# Altium integrated library Renesas Microcontroller H8.IntLib: 489 symbols (part 14 of 25)
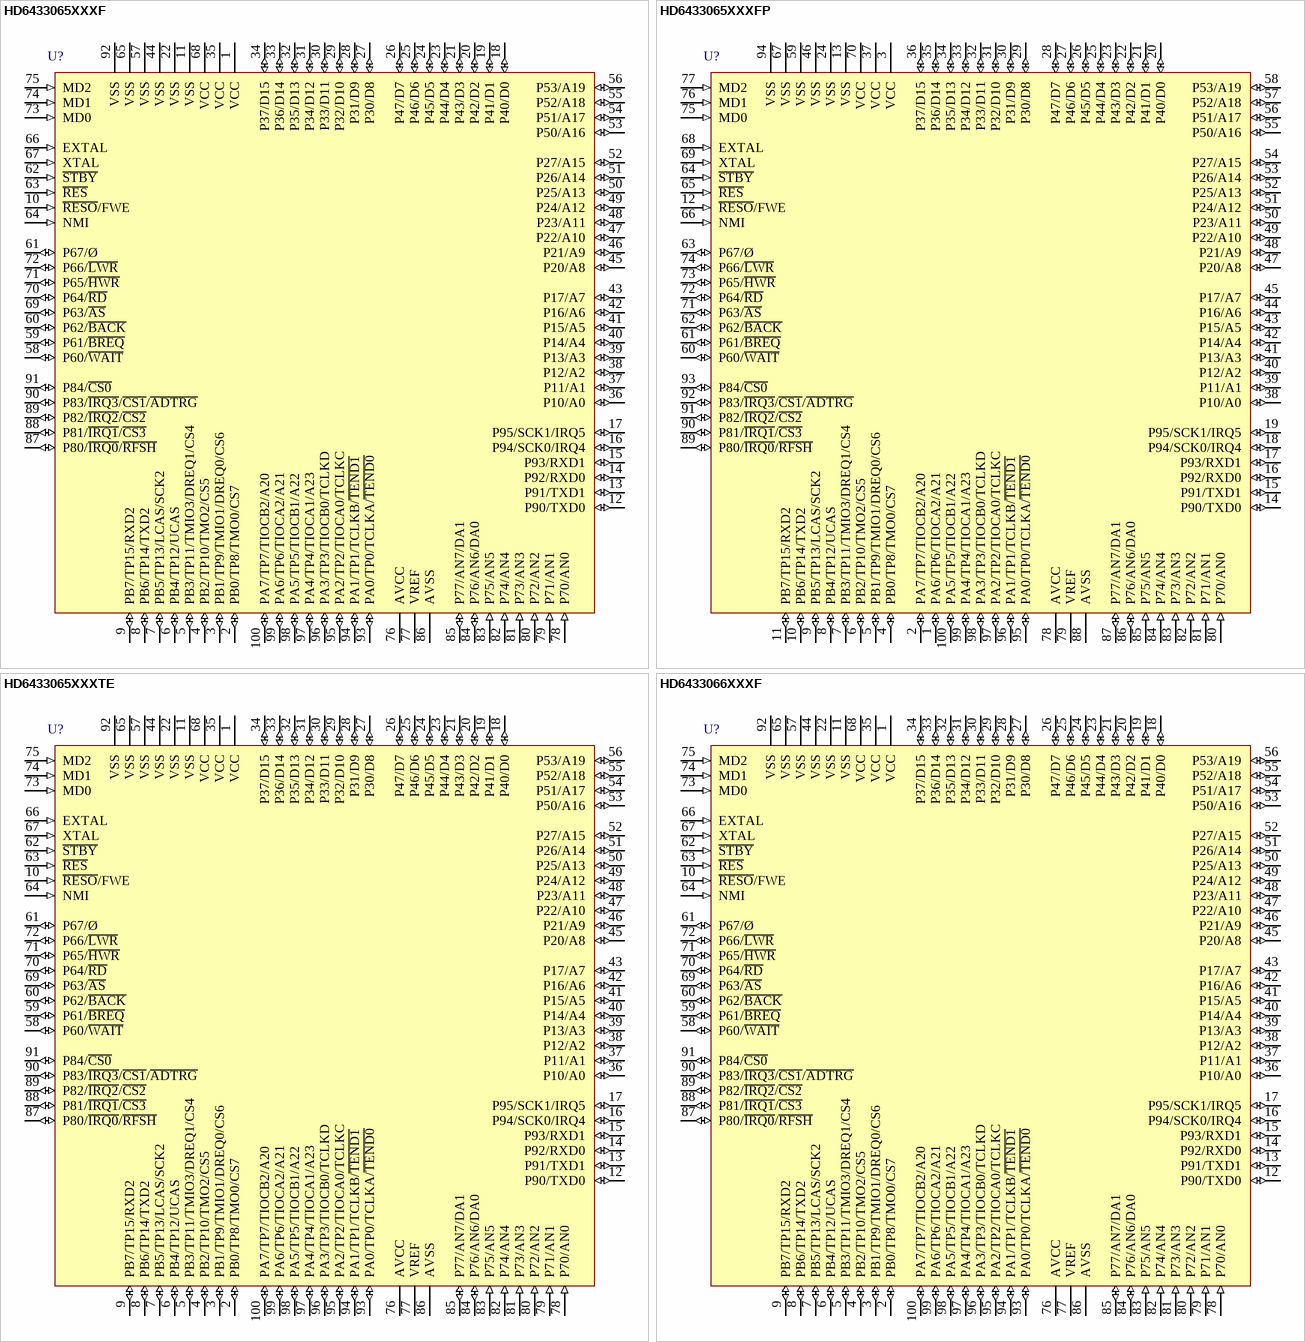
[diagram p101: symbols HD6433065XXXF to HD6433066XXXF]

## HD6433066XXXF
designator U?
H8 Family 32/16-bit CISC, H8/300H, 96K ROM, 4K RAM, 20MHz, 4.5 to 5.5V, 100-Pin QFP; Published: 28-Aug-2009; DatasheetVersion: Rev.4.00, Jan-2006; PackageVersion: Sep-2009; PackageReference: PRQP0100KA-A; Publisher: Altium Limited; PackageDescription: 100-Pin Plastic Quad Flat Pack, 14 x 14 x 2.7 mm Body, 0.5 mm Pitch; Code_JEITA: P-QFP100-14x14-0.50; ComponentLink1Description: Manufacturer Link; ComponentLink1URL: http://sg.renesas.com/fmwk.jsp?cnt=h8_family_landing.jsp&fp=/products/mpumcu/h8_family/; ComponentLink2Description: Datasheet; ComponentLink2URL: http://documentation.renesas.com/eng/products/mpumcu/rej09b0276_3067hm.pdf; ComponentLink3Description: Packaging Specification; ComponentLink3URL: http://sg.renesas.com/media/products/common_info/package/pdf/ic/code/prqp0100ka_a.pdf
footprint PRQP0100KA-A_N (Shrink QFP, 100-Leads, Body 14x14mm, Pitch 0.5mm, IPC Medium Density)
footprint PRQP0100KA-A_L (Shrink QFP, 100-Leads, Body 14x14mm, Pitch 0.5mm, IPC High Density)
footprint PRQP0100KA-A_M (Shrink QFP, 100-Leads, Body 14x14mm, Pitch 0.5mm, IPC Low Density)
pins: 1 VCC (power), 2 PB0/TP8/TMO0/CS7 (io), 3 PB1/TP9/TMIO1/DREQ0/CS6 (io), 4 PB2/TP10/TMO2/CS5 (io), 5 PB3/TP11/TMIO3/DREQ1/CS4 (io), 6 PB4/TP12/UCAS (io), 7 PB5/TP13/LCAS/SCK2 (io), 8 PB6/TP14/TXD2 (io), 9 PB7/TP15/RXD2 (io), 10 ~{RESO}/FWE (in), 11 VSS (power), 12 P90/TXD0 (io), 13 P91/TXD1 (io), 14 P92/RXD0 (io), 15 P93/RXD1 (io), 16 P94/SCK0/IRQ4 (io), 17 P95/SCK1/IRQ5 (io), 18 P40/D0 (io), 19 P41/D1 (io), 20 P42/D2 (io), 21 P43/D3 (io), 22 VSS (power), 23 P44/D4 (io), 24 P45/D5 (io), 25 P46/D6 (io), 26 P47/D7 (io), 27 P30/D8 (io), 28 P31/D9 (io), 29 P32/D10 (io), 30 P33/D11 (io), 31 P34/D12 (io), 32 P35/D13 (io), 33 P36/D14 (io), 34 P37/D15 (io), 35 VCC (power), 36 P10/A0 (io), 37 P11/A1 (io), 38 P12/A2 (io), 39 P13/A3 (io), 40 P14/A4 (io), 41 P15/A5 (io), 42 P16/A6 (io), 43 P17/A7 (io), 44 VSS (power), 45 P20/A8 (io), 46 P21/A9 (io), 47 P22/A10 (io), 48 P23/A11 (io), 49 P24/A12 (io), 50 P25/A13 (io), 51 P26/A14 (io), 52 P27/A15 (io), 53 P50/A16 (io), 54 P51/A17 (io), 55 P52/A18 (io), 56 P53/A19 (io), 57 VSS (power), 58 P60/~{WAIT} (io), 59 P61/~{BREQ} (io), 60 P62/~{BACK} (io), 61 P67/Ø (io), 62 ~{STBY} (in), 63 ~{RES} (in), 64 NMI (in), 65 VSS (power), 66 EXTAL (in), 67 XTAL (in), 68 VCC (power), 69 P63/~{AS} (io), 70 P64/~{RD} (io), 71 P65/~{HWR} (io), 72 P66/~{LWR} (io), 73 MD0 (in), 74 MD1 (in), 75 MD2 (in), 76 AVCC (power), 77 VREF (power), 78 P70/AN0 (in), 79 P71/AN1 (in), 80 P72/AN2 (in), 81 P73/AN3 (in), 82 P74/AN4 (in), 83 P75/AN5 (in), 84 P76/AN6/DA0 (io), 85 P77/AN7/DA1 (io), 86 AVSS (power), 87 P80/~{IRQ0}/~{RFSH} (io), 88 P81/~{IRQ1}/~{CS3} (io), 89 P82/~{IRQ2}/~{CS2} (io), 90 P83/~{IRQ3}/~{CS1}/~{ADTRG} (io), 91 P84/~{CS0} (io), 92 VSS (power), 93 PA0/TP0/TCLKA/~{TEND0} (io), 94 PA1/TP1/TCLKB/~{TEND1} (io), 95 PA2/TP2/TIOCA0/TCLKC (io), 96 PA3/TP3/TIOCB0/TCLKD (io), 97 PA4/TP4/TIOCA1/A23 (io), 98 PA5/TP5/TIOCB1/A22 (io), 99 PA6/TP6/TIOCA2/A21 (io), 100 PA7/TP7/TIOCB2/A20 (io)

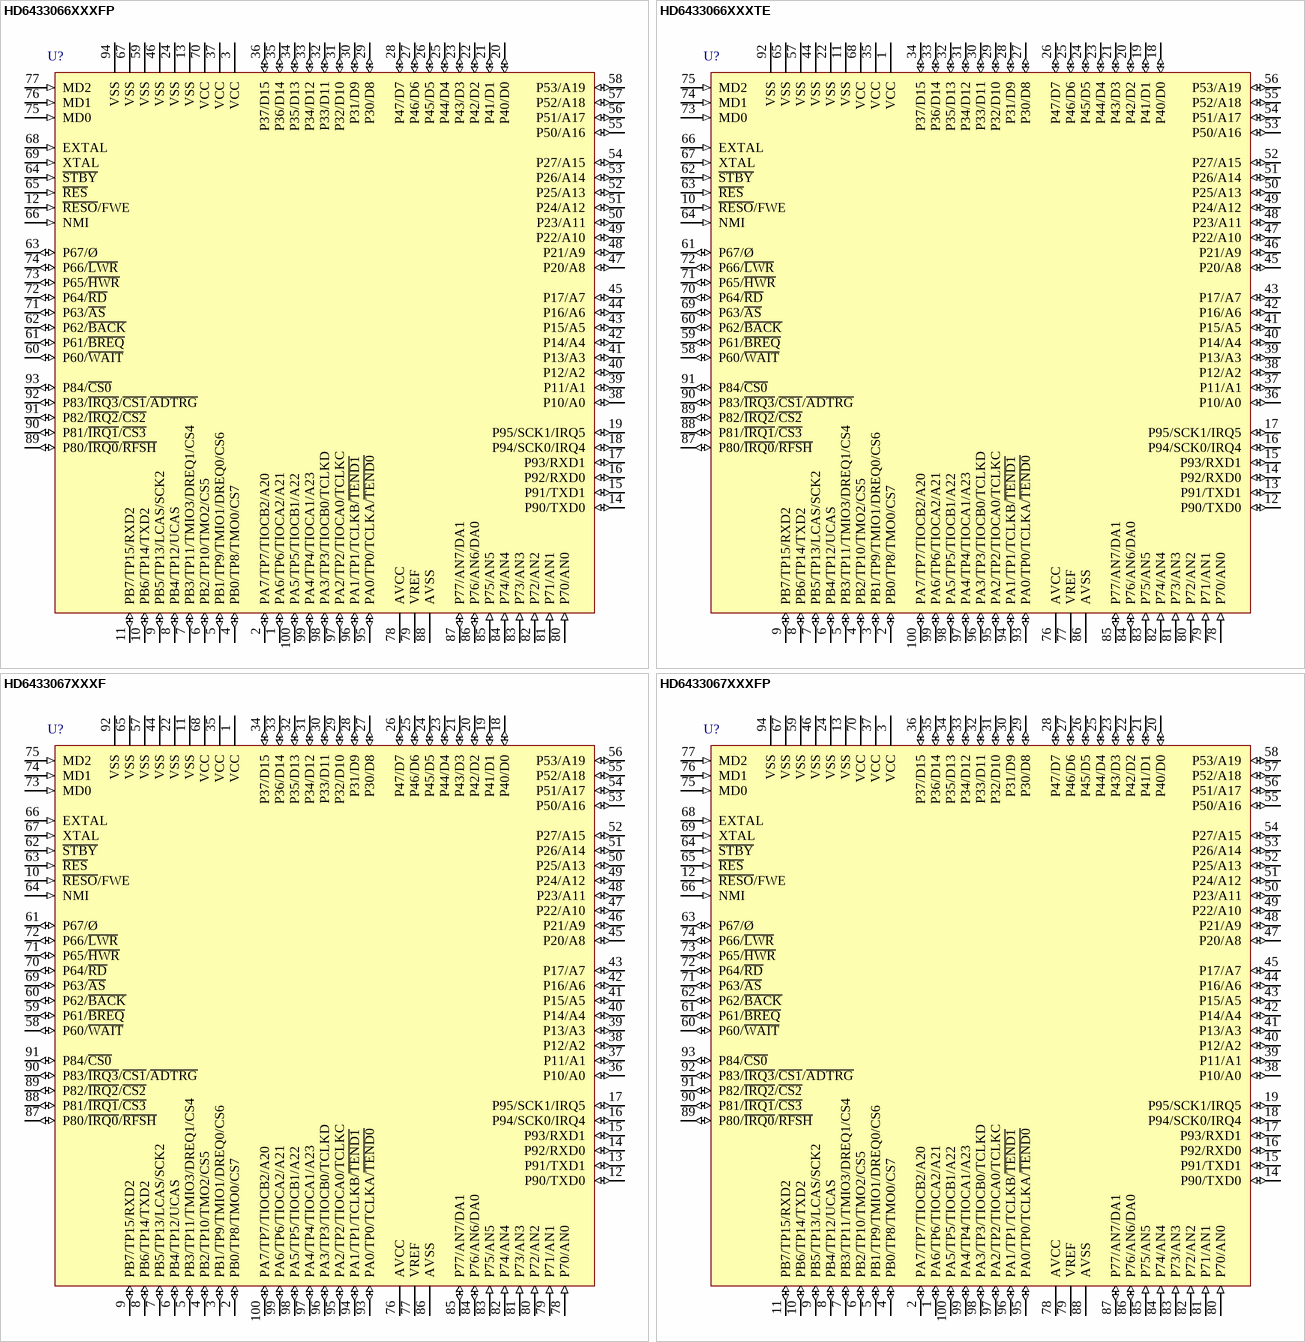
[diagram p49: symbols HD6433066XXXFP to HD6433067XXXFP]

## HD6433066XXXFP
designator U?
H8 Family 32/16-bit CISC, H8/300H, 96K ROM, 4K RAM, 20MHz, 4.5 to 5.5V, 100-Pin QFP; Published: 28-Aug-2009; DatasheetVersion: Rev.4.00, Jan-2006; PackageVersion: Sep-2005; PackageReference: PRQP0100JE-B; Publisher: Altium Limited; PackageDescription: 100-Pin Plastic Quad Flat Pack, 20 x 14 x 2.7 mm Body, 0.65 mm Pitch; Code_JEITA: P-QFP100-14x20-0.65; ComponentLink1Description: Manufacturer Link; ComponentLink1URL: http://sg.renesas.com/fmwk.jsp?cnt=h8_family_landing.jsp&fp=/products/mpumcu/h8_family/; ComponentLink2Description: Datasheet; ComponentLink2URL: http://documentation.renesas.com/eng/products/mpumcu/rej09b0276_3067hm.pdf; ComponentLink3Description: Packaging Specification; ComponentLink3URL: http://sg.renesas.com/media/products/common_info/package/pdf/ic/code/prqp0100je_b.pdf
footprint PRQP0100JE-B_N (QFP, 100-Leads, Body 20x14mm, Pitch 0.65mm, IPC Medium Density)
footprint PRQP0100JE-B_L (QFP, 100-Leads, Body 20x14mm, Pitch 0.65mm, IPC High Density)
footprint PRQP0100JE-B_M (QFP, 100-Leads, Body 20x14mm, Pitch 0.65mm, IPC Low Density)
pins: 1 PA6/TP6/TIOCA2/A21 (io), 2 PA7/TP7/TIOCB2/A20 (io), 3 VCC (power), 4 PB0/TP8/TMO0/CS7 (io), 5 PB1/TP9/TMIO1/DREQ0/CS6 (io), 6 PB2/TP10/TMO2/CS5 (io), 7 PB3/TP11/TMIO3/DREQ1/CS4 (io), 8 PB4/TP12/UCAS (io), 9 PB5/TP13/LCAS/SCK2 (io), 10 PB6/TP14/TXD2 (io), 11 PB7/TP15/RXD2 (io), 12 ~{RESO}/FWE (in), 13 VSS (power), 14 P90/TXD0 (io), 15 P91/TXD1 (io), 16 P92/RXD0 (io), 17 P93/RXD1 (io), 18 P94/SCK0/IRQ4 (io), 19 P95/SCK1/IRQ5 (io), 20 P40/D0 (io), 21 P41/D1 (io), 22 P42/D2 (io), 23 P43/D3 (io), 24 VSS (power), 25 P44/D4 (io), 26 P45/D5 (io), 27 P46/D6 (io), 28 P47/D7 (io), 29 P30/D8 (io), 30 P31/D9 (io), 31 P32/D10 (io), 32 P33/D11 (io), 33 P34/D12 (io), 34 P35/D13 (io), 35 P36/D14 (io), 36 P37/D15 (io), 37 VCC (power), 38 P10/A0 (io), 39 P11/A1 (io), 40 P12/A2 (io), 41 P13/A3 (io), 42 P14/A4 (io), 43 P15/A5 (io), 44 P16/A6 (io), 45 P17/A7 (io), 46 VSS (power), 47 P20/A8 (io), 48 P21/A9 (io), 49 P22/A10 (io), 50 P23/A11 (io), 51 P24/A12 (io), 52 P25/A13 (io), 53 P26/A14 (io), 54 P27/A15 (io), 55 P50/A16 (io), 56 P51/A17 (io), 57 P52/A18 (io), 58 P53/A19 (io), 59 VSS (power), 60 P60/~{WAIT} (io), 61 P61/~{BREQ} (io), 62 P62/~{BACK} (io), 63 P67/Ø (io), 64 ~{STBY} (in), 65 ~{RES} (in), 66 NMI (in), 67 VSS (power), 68 EXTAL (in), 69 XTAL (in), 70 VCC (power), 71 P63/~{AS} (io), 72 P64/~{RD} (io), 73 P65/~{HWR} (io), 74 P66/~{LWR} (io), 75 MD0 (in), 76 MD1 (in), 77 MD2 (in), 78 AVCC (power), 79 VREF (power), 80 P70/AN0 (in), 81 P71/AN1 (in), 82 P72/AN2 (in), 83 P73/AN3 (in), 84 P74/AN4 (in), 85 P75/AN5 (in), 86 P76/AN6/DA0 (io), 87 P77/AN7/DA1 (io), 88 AVSS (power), 89 P80/~{IRQ0}/~{RFSH} (io), 90 P81/~{IRQ1}/~{CS3} (io), 91 P82/~{IRQ2}/~{CS2} (io), 92 P83/~{IRQ3}/~{CS1}/~{ADTRG} (io), 93 P84/~{CS0} (io), 94 VSS (power), 95 PA0/TP0/TCLKA/~{TEND0} (io), 96 PA1/TP1/TCLKB/~{TEND1} (io), 97 PA2/TP2/TIOCA0/TCLKC (io), 98 PA3/TP3/TIOCB0/TCLKD (io), 99 PA4/TP4/TIOCA1/A23 (io), 100 PA5/TP5/TIOCB1/A22 (io)

## HD6433066XXXTE
designator U?
H8 Family 32/16-bit CISC, H8/300H, 96K ROM, 4K RAM, 20MHz, 4.5 to 5.5V, 100-Pin QFP; Published: 28-Aug-2009; DatasheetVersion: Rev.4.00, Jan-2006; PackageVersion: Sep-2005; PackageReference: PTQP0100KA-A; Publisher: Altium Limited; PackageDescription: 100-Pin Plastic Thin Quad Flat Pack, 14 x 14 x 1.0 mm Body, 0.5 mm Pitch; Code_JEITA: P-TQFP100-14x14-0.50; ComponentLink1Description: Manufacturer Link; ComponentLink1URL: http://sg.renesas.com/fmwk.jsp?cnt=h8_family_landing.jsp&fp=/products/mpumcu/h8_family/; ComponentLink2Description: Datasheet; ComponentLink2URL: http://documentation.renesas.com/eng/products/mpumcu/rej09b0276_3067hm.pdf; ComponentLink3Description: Packaging Specification; ComponentLink3URL: http://sg.renesas.com/media/products/common_info/package/pdf/ic/code/ptqp0100ka_a.pdf
footprint PTQP0100KA-A_N (Thin QFP, 100-Leads, Body 14x14mm, Pitch 0.5mm, IPC Medium Density)
footprint PTQP0100KA-A_L (Thin QFP, 100-Leads, Body 14x14mm, Pitch 0.5mm, IPC High Density)
footprint PTQP0100KA-A_M (Thin QFP, 100-Leads, Body 14x14mm, Pitch 0.5mm, IPC Low Density)
pins: 1 VCC (power), 2 PB0/TP8/TMO0/CS7 (io), 3 PB1/TP9/TMIO1/DREQ0/CS6 (io), 4 PB2/TP10/TMO2/CS5 (io), 5 PB3/TP11/TMIO3/DREQ1/CS4 (io), 6 PB4/TP12/UCAS (io), 7 PB5/TP13/LCAS/SCK2 (io), 8 PB6/TP14/TXD2 (io), 9 PB7/TP15/RXD2 (io), 10 ~{RESO}/FWE (in), 11 VSS (power), 12 P90/TXD0 (io), 13 P91/TXD1 (io), 14 P92/RXD0 (io), 15 P93/RXD1 (io), 16 P94/SCK0/IRQ4 (io), 17 P95/SCK1/IRQ5 (io), 18 P40/D0 (io), 19 P41/D1 (io), 20 P42/D2 (io), 21 P43/D3 (io), 22 VSS (power), 23 P44/D4 (io), 24 P45/D5 (io), 25 P46/D6 (io), 26 P47/D7 (io), 27 P30/D8 (io), 28 P31/D9 (io), 29 P32/D10 (io), 30 P33/D11 (io), 31 P34/D12 (io), 32 P35/D13 (io), 33 P36/D14 (io), 34 P37/D15 (io), 35 VCC (power), 36 P10/A0 (io), 37 P11/A1 (io), 38 P12/A2 (io), 39 P13/A3 (io), 40 P14/A4 (io), 41 P15/A5 (io), 42 P16/A6 (io), 43 P17/A7 (io), 44 VSS (power), 45 P20/A8 (io), 46 P21/A9 (io), 47 P22/A10 (io), 48 P23/A11 (io), 49 P24/A12 (io), 50 P25/A13 (io), 51 P26/A14 (io), 52 P27/A15 (io), 53 P50/A16 (io), 54 P51/A17 (io), 55 P52/A18 (io), 56 P53/A19 (io), 57 VSS (power), 58 P60/~{WAIT} (io), 59 P61/~{BREQ} (io), 60 P62/~{BACK} (io), 61 P67/Ø (io), 62 ~{STBY} (in), 63 ~{RES} (in), 64 NMI (in), 65 VSS (power), 66 EXTAL (in), 67 XTAL (in), 68 VCC (power), 69 P63/~{AS} (io), 70 P64/~{RD} (io), 71 P65/~{HWR} (io), 72 P66/~{LWR} (io), 73 MD0 (in), 74 MD1 (in), 75 MD2 (in), 76 AVCC (power), 77 VREF (power), 78 P70/AN0 (in), 79 P71/AN1 (in), 80 P72/AN2 (in), 81 P73/AN3 (in), 82 P74/AN4 (in), 83 P75/AN5 (in), 84 P76/AN6/DA0 (io), 85 P77/AN7/DA1 (io), 86 AVSS (power), 87 P80/~{IRQ0}/~{RFSH} (io), 88 P81/~{IRQ1}/~{CS3} (io), 89 P82/~{IRQ2}/~{CS2} (io), 90 P83/~{IRQ3}/~{CS1}/~{ADTRG} (io), 91 P84/~{CS0} (io), 92 VSS (power), 93 PA0/TP0/TCLKA/~{TEND0} (io), 94 PA1/TP1/TCLKB/~{TEND1} (io), 95 PA2/TP2/TIOCA0/TCLKC (io), 96 PA3/TP3/TIOCB0/TCLKD (io), 97 PA4/TP4/TIOCA1/A23 (io), 98 PA5/TP5/TIOCB1/A22 (io), 99 PA6/TP6/TIOCA2/A21 (io), 100 PA7/TP7/TIOCB2/A20 (io)

## HD6433067XXXF
designator U?
H8 Family 32/16-bit CISC, H8/300H, 128K ROM, 4K RAM, 20MHz, 4.5 to 5.5V, 100-Pin QFP; Published: 28-Aug-2009; DatasheetVersion: Rev.4.00, Jan-2006; PackageVersion: Sep-2009; PackageReference: PRQP0100KA-A; Publisher: Altium Limited; PackageDescription: 100-Pin Plastic Quad Flat Pack, 14 x 14 x 2.7 mm Body, 0.5 mm Pitch; Code_JEITA: P-QFP100-14x14-0.50; ComponentLink1Description: Manufacturer Link; ComponentLink1URL: http://sg.renesas.com/fmwk.jsp?cnt=h8_family_landing.jsp&fp=/products/mpumcu/h8_family/; ComponentLink2Description: Datasheet; ComponentLink2URL: http://documentation.renesas.com/eng/products/mpumcu/rej09b0276_3067hm.pdf; ComponentLink3Description: Packaging Specification; ComponentLink3URL: http://sg.renesas.com/media/products/common_info/package/pdf/ic/code/prqp0100ka_a.pdf
footprint PRQP0100KA-A_N (Shrink QFP, 100-Leads, Body 14x14mm, Pitch 0.5mm, IPC Medium Density)
footprint PRQP0100KA-A_L (Shrink QFP, 100-Leads, Body 14x14mm, Pitch 0.5mm, IPC High Density)
footprint PRQP0100KA-A_M (Shrink QFP, 100-Leads, Body 14x14mm, Pitch 0.5mm, IPC Low Density)
pins: 1 VCC (power), 2 PB0/TP8/TMO0/CS7 (io), 3 PB1/TP9/TMIO1/DREQ0/CS6 (io), 4 PB2/TP10/TMO2/CS5 (io), 5 PB3/TP11/TMIO3/DREQ1/CS4 (io), 6 PB4/TP12/UCAS (io), 7 PB5/TP13/LCAS/SCK2 (io), 8 PB6/TP14/TXD2 (io), 9 PB7/TP15/RXD2 (io), 10 ~{RESO}/FWE (in), 11 VSS (power), 12 P90/TXD0 (io), 13 P91/TXD1 (io), 14 P92/RXD0 (io), 15 P93/RXD1 (io), 16 P94/SCK0/IRQ4 (io), 17 P95/SCK1/IRQ5 (io), 18 P40/D0 (io), 19 P41/D1 (io), 20 P42/D2 (io), 21 P43/D3 (io), 22 VSS (power), 23 P44/D4 (io), 24 P45/D5 (io), 25 P46/D6 (io), 26 P47/D7 (io), 27 P30/D8 (io), 28 P31/D9 (io), 29 P32/D10 (io), 30 P33/D11 (io), 31 P34/D12 (io), 32 P35/D13 (io), 33 P36/D14 (io), 34 P37/D15 (io), 35 VCC (power), 36 P10/A0 (io), 37 P11/A1 (io), 38 P12/A2 (io), 39 P13/A3 (io), 40 P14/A4 (io), 41 P15/A5 (io), 42 P16/A6 (io), 43 P17/A7 (io), 44 VSS (power), 45 P20/A8 (io), 46 P21/A9 (io), 47 P22/A10 (io), 48 P23/A11 (io), 49 P24/A12 (io), 50 P25/A13 (io), 51 P26/A14 (io), 52 P27/A15 (io), 53 P50/A16 (io), 54 P51/A17 (io), 55 P52/A18 (io), 56 P53/A19 (io), 57 VSS (power), 58 P60/~{WAIT} (io), 59 P61/~{BREQ} (io), 60 P62/~{BACK} (io), 61 P67/Ø (io), 62 ~{STBY} (in), 63 ~{RES} (in), 64 NMI (in), 65 VSS (power), 66 EXTAL (in), 67 XTAL (in), 68 VCC (power), 69 P63/~{AS} (io), 70 P64/~{RD} (io), 71 P65/~{HWR} (io), 72 P66/~{LWR} (io), 73 MD0 (in), 74 MD1 (in), 75 MD2 (in), 76 AVCC (power), 77 VREF (power), 78 P70/AN0 (in), 79 P71/AN1 (in), 80 P72/AN2 (in), 81 P73/AN3 (in), 82 P74/AN4 (in), 83 P75/AN5 (in), 84 P76/AN6/DA0 (io), 85 P77/AN7/DA1 (io), 86 AVSS (power), 87 P80/~{IRQ0}/~{RFSH} (io), 88 P81/~{IRQ1}/~{CS3} (io), 89 P82/~{IRQ2}/~{CS2} (io), 90 P83/~{IRQ3}/~{CS1}/~{ADTRG} (io), 91 P84/~{CS0} (io), 92 VSS (power), 93 PA0/TP0/TCLKA/~{TEND0} (io), 94 PA1/TP1/TCLKB/~{TEND1} (io), 95 PA2/TP2/TIOCA0/TCLKC (io), 96 PA3/TP3/TIOCB0/TCLKD (io), 97 PA4/TP4/TIOCA1/A23 (io), 98 PA5/TP5/TIOCB1/A22 (io), 99 PA6/TP6/TIOCA2/A21 (io), 100 PA7/TP7/TIOCB2/A20 (io)

## HD6433067XXXFP
designator U?
H8 Family 32/16-bit CISC, H8/300H, 128K ROM, 4K RAM, 20MHz, 4.5 to 5.5V, 100-Pin QFP; Published: 28-Aug-2009; DatasheetVersion: Rev.4.00, Jan-2006; PackageVersion: Sep-2005; PackageReference: PRQP0100JE-B; Publisher: Altium Limited; PackageDescription: 100-Pin Plastic Quad Flat Pack, 20 x 14 x 2.7 mm Body, 0.65 mm Pitch; Code_JEITA: P-QFP100-14x20-0.65; ComponentLink1Description: Manufacturer Link; ComponentLink1URL: http://sg.renesas.com/fmwk.jsp?cnt=h8_family_landing.jsp&fp=/products/mpumcu/h8_family/; ComponentLink2Description: Datasheet; ComponentLink2URL: http://documentation.renesas.com/eng/products/mpumcu/rej09b0276_3067hm.pdf; ComponentLink3Description: Packaging Specification; ComponentLink3URL: http://sg.renesas.com/media/products/common_info/package/pdf/ic/code/prqp0100je_b.pdf
footprint PRQP0100JE-B_N (QFP, 100-Leads, Body 20x14mm, Pitch 0.65mm, IPC Medium Density)
footprint PRQP0100JE-B_L (QFP, 100-Leads, Body 20x14mm, Pitch 0.65mm, IPC High Density)
footprint PRQP0100JE-B_M (QFP, 100-Leads, Body 20x14mm, Pitch 0.65mm, IPC Low Density)
pins: 1 PA6/TP6/TIOCA2/A21 (io), 2 PA7/TP7/TIOCB2/A20 (io), 3 VCC (power), 4 PB0/TP8/TMO0/CS7 (io), 5 PB1/TP9/TMIO1/DREQ0/CS6 (io), 6 PB2/TP10/TMO2/CS5 (io), 7 PB3/TP11/TMIO3/DREQ1/CS4 (io), 8 PB4/TP12/UCAS (io), 9 PB5/TP13/LCAS/SCK2 (io), 10 PB6/TP14/TXD2 (io), 11 PB7/TP15/RXD2 (io), 12 ~{RESO}/FWE (in), 13 VSS (power), 14 P90/TXD0 (io), 15 P91/TXD1 (io), 16 P92/RXD0 (io), 17 P93/RXD1 (io), 18 P94/SCK0/IRQ4 (io), 19 P95/SCK1/IRQ5 (io), 20 P40/D0 (io), 21 P41/D1 (io), 22 P42/D2 (io), 23 P43/D3 (io), 24 VSS (power), 25 P44/D4 (io), 26 P45/D5 (io), 27 P46/D6 (io), 28 P47/D7 (io), 29 P30/D8 (io), 30 P31/D9 (io), 31 P32/D10 (io), 32 P33/D11 (io), 33 P34/D12 (io), 34 P35/D13 (io), 35 P36/D14 (io), 36 P37/D15 (io), 37 VCC (power), 38 P10/A0 (io), 39 P11/A1 (io), 40 P12/A2 (io), 41 P13/A3 (io), 42 P14/A4 (io), 43 P15/A5 (io), 44 P16/A6 (io), 45 P17/A7 (io), 46 VSS (power), 47 P20/A8 (io), 48 P21/A9 (io), 49 P22/A10 (io), 50 P23/A11 (io), 51 P24/A12 (io), 52 P25/A13 (io), 53 P26/A14 (io), 54 P27/A15 (io), 55 P50/A16 (io), 56 P51/A17 (io), 57 P52/A18 (io), 58 P53/A19 (io), 59 VSS (power), 60 P60/~{WAIT} (io), 61 P61/~{BREQ} (io), 62 P62/~{BACK} (io), 63 P67/Ø (io), 64 ~{STBY} (in), 65 ~{RES} (in), 66 NMI (in), 67 VSS (power), 68 EXTAL (in), 69 XTAL (in), 70 VCC (power), 71 P63/~{AS} (io), 72 P64/~{RD} (io), 73 P65/~{HWR} (io), 74 P66/~{LWR} (io), 75 MD0 (in), 76 MD1 (in), 77 MD2 (in), 78 AVCC (power), 79 VREF (power), 80 P70/AN0 (in), 81 P71/AN1 (in), 82 P72/AN2 (in), 83 P73/AN3 (in), 84 P74/AN4 (in), 85 P75/AN5 (in), 86 P76/AN6/DA0 (io), 87 P77/AN7/DA1 (io), 88 AVSS (power), 89 P80/~{IRQ0}/~{RFSH} (io), 90 P81/~{IRQ1}/~{CS3} (io), 91 P82/~{IRQ2}/~{CS2} (io), 92 P83/~{IRQ3}/~{CS1}/~{ADTRG} (io), 93 P84/~{CS0} (io), 94 VSS (power), 95 PA0/TP0/TCLKA/~{TEND0} (io), 96 PA1/TP1/TCLKB/~{TEND1} (io), 97 PA2/TP2/TIOCA0/TCLKC (io), 98 PA3/TP3/TIOCB0/TCLKD (io), 99 PA4/TP4/TIOCA1/A23 (io), 100 PA5/TP5/TIOCB1/A22 (io)

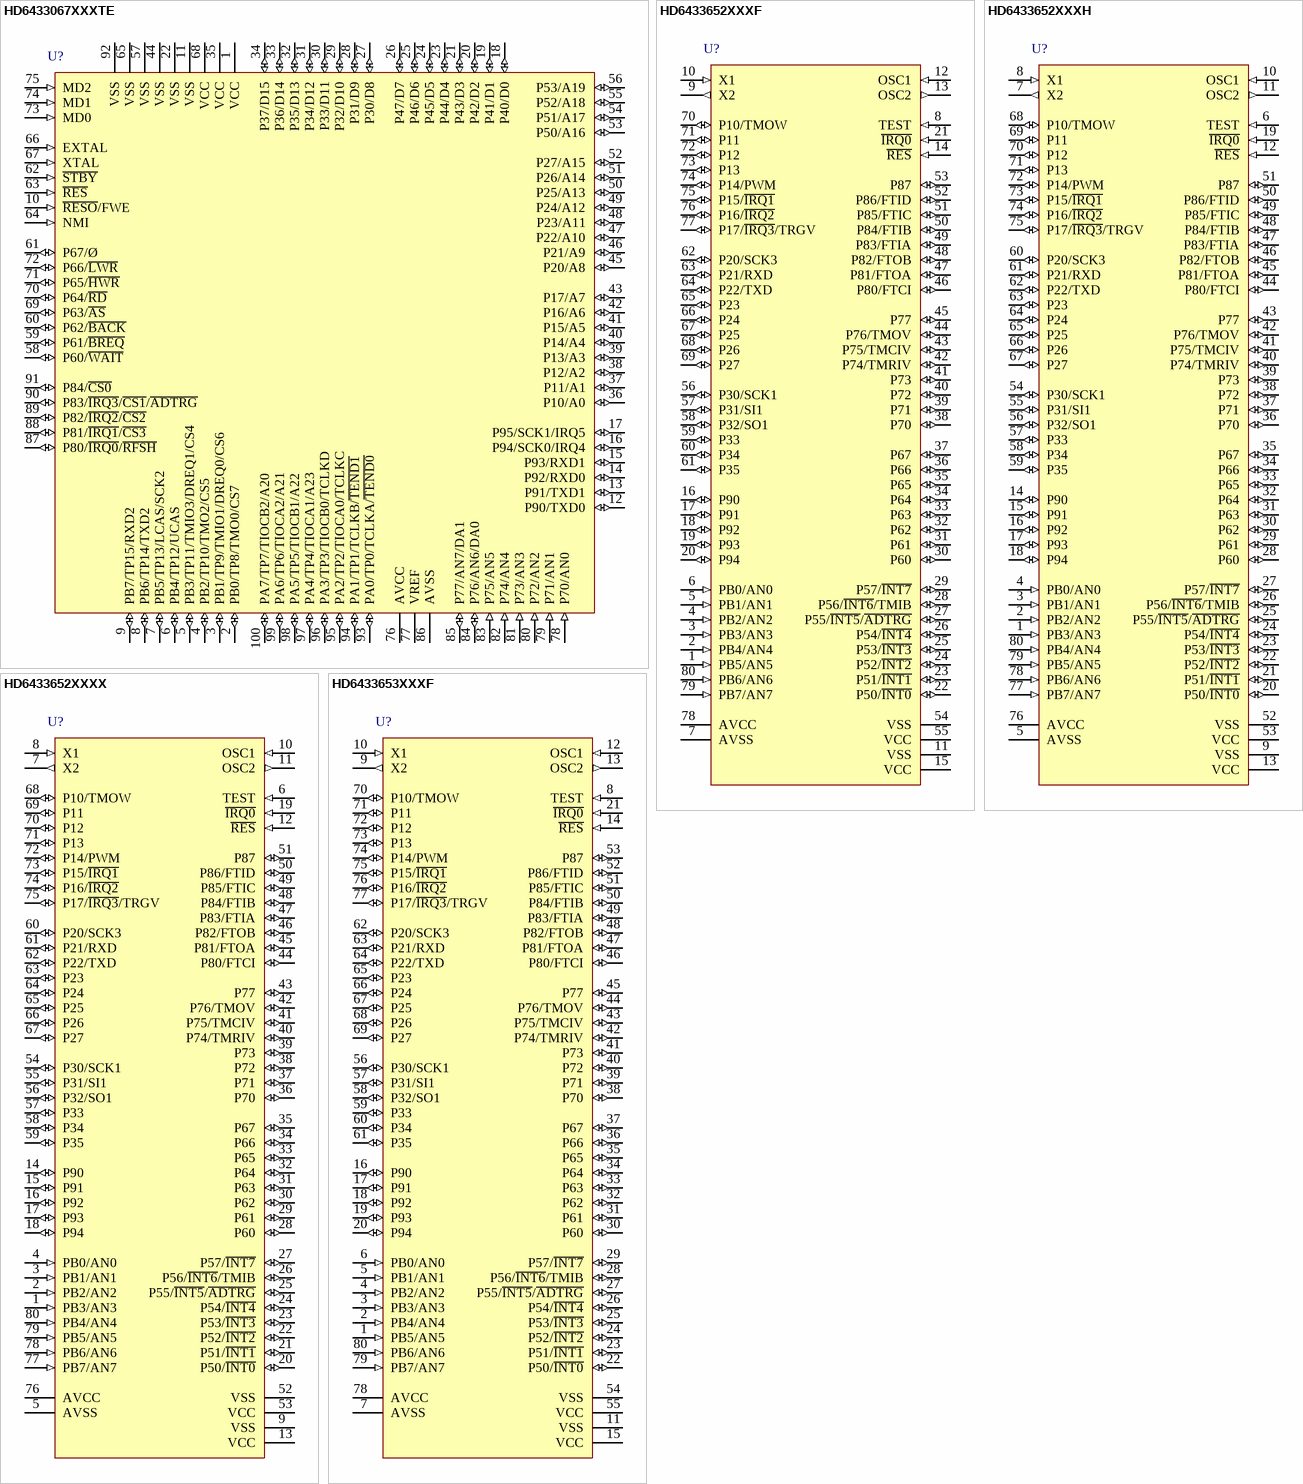
[diagram p50: symbols HD6433067XXXTE to HD6433653XXXF]

## HD6433067XXXTE
designator U?
H8 Family 32/16-bit CISC, H8/300H, 128K ROM, 4K RAM, 20MHz, 4.5 to 5.5V, 100-Pin QFP; Published: 28-Aug-2009; DatasheetVersion: Rev.4.00, Jan-2006; PackageVersion: Sep-2005; PackageReference: PTQP0100KA-A; Publisher: Altium Limited; PackageDescription: 100-Pin Plastic Thin Quad Flat Pack, 14 x 14 x 1.0 mm Body, 0.5 mm Pitch; Code_JEITA: P-TQFP100-14x14-0.50; ComponentLink1Description: Manufacturer Link; ComponentLink1URL: http://sg.renesas.com/fmwk.jsp?cnt=h8_family_landing.jsp&fp=/products/mpumcu/h8_family/; ComponentLink2Description: Datasheet; ComponentLink2URL: http://documentation.renesas.com/eng/products/mpumcu/rej09b0276_3067hm.pdf; ComponentLink3Description: Packaging Specification; ComponentLink3URL: http://sg.renesas.com/media/products/common_info/package/pdf/ic/code/ptqp0100ka_a.pdf
footprint PTQP0100KA-A_N (Thin QFP, 100-Leads, Body 14x14mm, Pitch 0.5mm, IPC Medium Density)
footprint PTQP0100KA-A_L (Thin QFP, 100-Leads, Body 14x14mm, Pitch 0.5mm, IPC High Density)
footprint PTQP0100KA-A_M (Thin QFP, 100-Leads, Body 14x14mm, Pitch 0.5mm, IPC Low Density)
pins: 1 VCC (power), 2 PB0/TP8/TMO0/CS7 (io), 3 PB1/TP9/TMIO1/DREQ0/CS6 (io), 4 PB2/TP10/TMO2/CS5 (io), 5 PB3/TP11/TMIO3/DREQ1/CS4 (io), 6 PB4/TP12/UCAS (io), 7 PB5/TP13/LCAS/SCK2 (io), 8 PB6/TP14/TXD2 (io), 9 PB7/TP15/RXD2 (io), 10 ~{RESO}/FWE (in), 11 VSS (power), 12 P90/TXD0 (io), 13 P91/TXD1 (io), 14 P92/RXD0 (io), 15 P93/RXD1 (io), 16 P94/SCK0/IRQ4 (io), 17 P95/SCK1/IRQ5 (io), 18 P40/D0 (io), 19 P41/D1 (io), 20 P42/D2 (io), 21 P43/D3 (io), 22 VSS (power), 23 P44/D4 (io), 24 P45/D5 (io), 25 P46/D6 (io), 26 P47/D7 (io), 27 P30/D8 (io), 28 P31/D9 (io), 29 P32/D10 (io), 30 P33/D11 (io), 31 P34/D12 (io), 32 P35/D13 (io), 33 P36/D14 (io), 34 P37/D15 (io), 35 VCC (power), 36 P10/A0 (io), 37 P11/A1 (io), 38 P12/A2 (io), 39 P13/A3 (io), 40 P14/A4 (io), 41 P15/A5 (io), 42 P16/A6 (io), 43 P17/A7 (io), 44 VSS (power), 45 P20/A8 (io), 46 P21/A9 (io), 47 P22/A10 (io), 48 P23/A11 (io), 49 P24/A12 (io), 50 P25/A13 (io), 51 P26/A14 (io), 52 P27/A15 (io), 53 P50/A16 (io), 54 P51/A17 (io), 55 P52/A18 (io), 56 P53/A19 (io), 57 VSS (power), 58 P60/~{WAIT} (io), 59 P61/~{BREQ} (io), 60 P62/~{BACK} (io), 61 P67/Ø (io), 62 ~{STBY} (in), 63 ~{RES} (in), 64 NMI (in), 65 VSS (power), 66 EXTAL (in), 67 XTAL (in), 68 VCC (power), 69 P63/~{AS} (io), 70 P64/~{RD} (io), 71 P65/~{HWR} (io), 72 P66/~{LWR} (io), 73 MD0 (in), 74 MD1 (in), 75 MD2 (in), 76 AVCC (power), 77 VREF (power), 78 P70/AN0 (in), 79 P71/AN1 (in), 80 P72/AN2 (in), 81 P73/AN3 (in), 82 P74/AN4 (in), 83 P75/AN5 (in), 84 P76/AN6/DA0 (io), 85 P77/AN7/DA1 (io), 86 AVSS (power), 87 P80/~{IRQ0}/~{RFSH} (io), 88 P81/~{IRQ1}/~{CS3} (io), 89 P82/~{IRQ2}/~{CS2} (io), 90 P83/~{IRQ3}/~{CS1}/~{ADTRG} (io), 91 P84/~{CS0} (io), 92 VSS (power), 93 PA0/TP0/TCLKA/~{TEND0} (io), 94 PA1/TP1/TCLKB/~{TEND1} (io), 95 PA2/TP2/TIOCA0/TCLKC (io), 96 PA3/TP3/TIOCB0/TCLKD (io), 97 PA4/TP4/TIOCA1/A23 (io), 98 PA5/TP5/TIOCB1/A22 (io), 99 PA6/TP6/TIOCA2/A21 (io), 100 PA7/TP7/TIOCB2/A20 (io)

## HD6433652XXXF
designator U?
H8 Family 8-bit MCU, H8/300L, 16K ROM, 1K RAM, 2.5MHz, 2.2 to 5.5V, 80-Pin QFP; Published: 28-Aug-2009; DatasheetVersion: Oct-1997; PackageVersion: Sep-2005; PackageReference: PRQP0080GD-B; Publisher: Altium Limited; PackageDescription: 80-Pin Plastic Quad Flat Pack, 20 x 14 x 2.7 mm Body, 0.8 mm Pitch; Code_JEITA: P-QFP80-14x20-0.80; ComponentLink1Description: Manufacturer Link; ComponentLink1URL: http://sg.renesas.com/fmwk.jsp?cnt=h8_family_landing.jsp&fp=/products/mpumcu/h8_family/; ComponentLink2Description: Datasheet; ComponentLink2URL: http://documentation.renesas.com/eng/products/mpumcu/e602134_h83657.pdf; ComponentLink3Description: Packaging Specification; ComponentLink3URL: http://sg.renesas.com/media/products/common_info/package/pdf/ic/code/prqp0080gd_b.pdf
footprint PRQP0080GD-B_N (QFP, 80-Leads, Body 20x14mm, Pitch 0.8mm, IPC Medium Density)
footprint PRQP0080GD-B_L (QFP, 80-Leads, Body 20x14mm, Pitch 0.8mm, IPC High Density)
footprint PRQP0080GD-B_M (QFP, 80-Leads, Body 20x14mm, Pitch 0.8mm, IPC Low Density)
pins: 1 PB5/AN5 (in), 2 PB4/AN4 (in), 3 PB3/AN3 (in), 4 PB2/AN2 (in), 5 PB1/AN1 (in), 6 PB0/AN0 (in), 7 AVSS (power), 8 TEST (in), 9 X2 (out), 10 X1 (in), 11 VSS (power), 12 OSC1 (in), 13 OSC2 (out), 14 ~{RES} (in), 15 VCC (power), 16 P90 (io), 17 P91 (io), 18 P92 (io), 19 P93 (io), 20 P94 (io), 21 ~{IRQ0} (in), 22 P50/~{INT0} (io), 23 P51/~{INT1} (io), 24 P52/~{INT2} (io), 25 P53/~{INT3} (io), 26 P54/~{INT4} (io), 27 P55/~{INT5}/~{ADTRG} (io), 28 P56/~{INT6}/TMIB (io), 29 P57/~{INT7} (io), 30 P60 (io), 31 P61 (io), 32 P62 (io), 33 P63 (io), 34 P64 (io), 35 P65 (io), 36 P66 (io), 37 P67 (io), 38 P70 (io), 39 P71 (io), 40 P72 (io), 41 P73 (io), 42 P74/TMRIV (io), 43 P75/TMCIV (io), 44 P76/TMOV (io), 45 P77 (io), 46 P80/FTCI (io), 47 P81/FTOA (io), 48 P82/FTOB (io), 49 P83/FTIA (io), 50 P84/FTIB (io), 51 P85/FTIC (io), 52 P86/FTID (io), 53 P87 (io), 54 VSS (power), 55 VCC (power), 56 P30/SCK1 (io), 57 P31/SI1 (io), 58 P32/SO1 (io), 59 P33 (io), 60 P34 (io), 61 P35 (io), 62 P20/SCK3 (io), 63 P21/RXD (io), 64 P22/TXD (io), 65 P23 (io), 66 P24 (io), 67 P25 (io), 68 P26 (io), 69 P27 (io), 70 P10/TMOW (io), 71 P11 (io), 72 P12 (io), 73 P13 (io), 74 P14/PWM (io), 75 P15/~{IRQ1} (io), 76 P16/~{IRQ2} (io), 77 P17/~{IRQ3}/TRGV (io), 78 AVCC (power), 79 PB7/AN7 (in), 80 PB6/AN6 (in)

## HD6433652XXXH
designator U?
H8 Family 8-bit MCU, H8/300L, 16K ROM, 1K RAM, 2.5MHz, 2.2 to 5.5V, 80-Pin QFP; Published: 28-Aug-2009; DatasheetVersion: Oct-1997; PackageVersion: Sep-2005; PackageReference: PRQP0080JB-A; Publisher: Altium Limited; PackageDescription: 80-Pin Plastic Quad Flat Pack, 14 x 14 x 2.7 mm Body, 0.65 mm Pitch; Code_JEITA: P-QFP80-14x14-0.65; Code_IPC: QFP65P1720X1720-80; ComponentLink1Description: Manufacturer Link; ComponentLink1URL: http://sg.renesas.com/fmwk.jsp?cnt=h8_family_landing.jsp&fp=/products/mpumcu/h8_family/; ComponentLink2Description: Datasheet; ComponentLink2URL: http://documentation.renesas.com/eng/products/mpumcu/e602134_h83657.pdf; ComponentLink3Description: Packaging Specification; ComponentLink3URL: http://sg.renesas.com/media/products/common_info/package/pdf/ic/code/prqp0080jb_a.pdf
footprint PRQP0080JB-A_N (QFP, 80-Leads, Body 14x14mm, Pitch 0.65mm, IPC Medium Density)
footprint PRQP0080JB-A_L (QFP, 80-Leads, Body 14x14mm, Pitch 0.65mm, IPC High Density)
footprint PRQP0080JB-A_M (QFP, 80-Leads, Body 14x14mm, Pitch 0.65mm, IPC Low Density)
pins: 1 PB3/AN3 (in), 2 PB2/AN2 (in), 3 PB1/AN1 (in), 4 PB0/AN0 (in), 5 AVSS (power), 6 TEST (in), 7 X2 (out), 8 X1 (in), 9 VSS (power), 10 OSC1 (in), 11 OSC2 (out), 12 ~{RES} (in), 13 VCC (power), 14 P90 (io), 15 P91 (io), 16 P92 (io), 17 P93 (io), 18 P94 (io), 19 ~{IRQ0} (in), 20 P50/~{INT0} (io), 21 P51/~{INT1} (io), 22 P52/~{INT2} (io), 23 P53/~{INT3} (io), 24 P54/~{INT4} (io), 25 P55/~{INT5}/~{ADTRG} (io), 26 P56/~{INT6}/TMIB (io), 27 P57/~{INT7} (io), 28 P60 (io), 29 P61 (io), 30 P62 (io), 31 P63 (io), 32 P64 (io), 33 P65 (io), 34 P66 (io), 35 P67 (io), 36 P70 (io), 37 P71 (io), 38 P72 (io), 39 P73 (io), 40 P74/TMRIV (io), 41 P75/TMCIV (io), 42 P76/TMOV (io), 43 P77 (io), 44 P80/FTCI (io), 45 P81/FTOA (io), 46 P82/FTOB (io), 47 P83/FTIA (io), 48 P84/FTIB (io), 49 P85/FTIC (io), 50 P86/FTID (io), 51 P87 (io), 52 VSS (power), 53 VCC (power), 54 P30/SCK1 (io), 55 P31/SI1 (io), 56 P32/SO1 (io), 57 P33 (io), 58 P34 (io), 59 P35 (io), 60 P20/SCK3 (io), 61 P21/RXD (io), 62 P22/TXD (io), 63 P23 (io), 64 P24 (io), 65 P25 (io), 66 P26 (io), 67 P27 (io), 68 P10/TMOW (io), 69 P11 (io), 70 P12 (io), 71 P13 (io), 72 P14/PWM (io), 73 P15/~{IRQ1} (io), 74 P16/~{IRQ2} (io), 75 P17/~{IRQ3}/TRGV (io), 76 AVCC (power), 77 PB7/AN7 (in), 78 PB6/AN6 (in), 79 PB5/AN5 (in), 80 PB4/AN4 (in)

## HD6433652XXXX
designator U?
H8 Family 8-bit MCU, H8/300L, 16K ROM, 1K RAM, 2.5MHz, 2.2 to 5.5V, 80-Pin QFP; Published: 28-Aug-2009; DatasheetVersion: Oct-1997; PackageVersion: Sep-2005; PackageReference: PTQP0080JA-B; Publisher: Altium Limited; PackageDescription: 80-Pin Plastic Thin Quad Flat Pack, 14 x 14 x 1.0 mm Body, 0.65 mm Pitch; Code_JEITA: P-TQFP80-14x14-0.65; ComponentLink1Description: Manufacturer Link; ComponentLink1URL: http://sg.renesas.com/fmwk.jsp?cnt=h8_family_landing.jsp&fp=/products/mpumcu/h8_family/; ComponentLink2Description: Datasheet; ComponentLink2URL: http://documentation.renesas.com/eng/products/mpumcu/e602134_h83657.pdf; ComponentLink3Description: Packaging Specification; ComponentLink3URL: http://sg.renesas.com/media/products/common_info/package/pdf/ic/code/ptqp0080ja_b.pdf
footprint PTQP0080JA-B_N (Thin QFP, 80-Leads, Body 14 x 14mm, Pitch 0.65mm, IPC Medium Density)
footprint PTQP0080JA-B_L (Thin QFP, 80-Leads, Body 14 x 14mm, Pitch 0.65mm, IPC High Density)
footprint PTQP0080JA-B_M (Thin QFP, 80-Leads, Body 14 x 14mm, Pitch 0.65mm, IPC Low Density)
pins: 1 PB3/AN3 (in), 2 PB2/AN2 (in), 3 PB1/AN1 (in), 4 PB0/AN0 (in), 5 AVSS (power), 6 TEST (in), 7 X2 (out), 8 X1 (in), 9 VSS (power), 10 OSC1 (in), 11 OSC2 (out), 12 ~{RES} (in), 13 VCC (power), 14 P90 (io), 15 P91 (io), 16 P92 (io), 17 P93 (io), 18 P94 (io), 19 ~{IRQ0} (in), 20 P50/~{INT0} (io), 21 P51/~{INT1} (io), 22 P52/~{INT2} (io), 23 P53/~{INT3} (io), 24 P54/~{INT4} (io), 25 P55/~{INT5}/~{ADTRG} (io), 26 P56/~{INT6}/TMIB (io), 27 P57/~{INT7} (io), 28 P60 (io), 29 P61 (io), 30 P62 (io), 31 P63 (io), 32 P64 (io), 33 P65 (io), 34 P66 (io), 35 P67 (io), 36 P70 (io), 37 P71 (io), 38 P72 (io), 39 P73 (io), 40 P74/TMRIV (io), 41 P75/TMCIV (io), 42 P76/TMOV (io), 43 P77 (io), 44 P80/FTCI (io), 45 P81/FTOA (io), 46 P82/FTOB (io), 47 P83/FTIA (io), 48 P84/FTIB (io), 49 P85/FTIC (io), 50 P86/FTID (io), 51 P87 (io), 52 VSS (power), 53 VCC (power), 54 P30/SCK1 (io), 55 P31/SI1 (io), 56 P32/SO1 (io), 57 P33 (io), 58 P34 (io), 59 P35 (io), 60 P20/SCK3 (io), 61 P21/RXD (io), 62 P22/TXD (io), 63 P23 (io), 64 P24 (io), 65 P25 (io), 66 P26 (io), 67 P27 (io), 68 P10/TMOW (io), 69 P11 (io), 70 P12 (io), 71 P13 (io), 72 P14/PWM (io), 73 P15/~{IRQ1} (io), 74 P16/~{IRQ2} (io), 75 P17/~{IRQ3}/TRGV (io), 76 AVCC (power), 77 PB7/AN7 (in), 78 PB6/AN6 (in), 79 PB5/AN5 (in), 80 PB4/AN4 (in)

## HD6433653XXXF
designator U?
H8 Family 8-bit MCU, H8/300L, 24K ROM, 1K RAM, 2.5MHz, 2.2 to 5.5V, 80-Pin QFP; Published: 28-Aug-2009; DatasheetVersion: Oct-1997; PackageVersion: Sep-2005; PackageReference: PRQP0080GD-B; Publisher: Altium Limited; PackageDescription: 80-Pin Plastic Quad Flat Pack, 20 x 14 x 2.7 mm Body, 0.8 mm Pitch; Code_JEITA: P-QFP80-14x20-0.80; ComponentLink1Description: Manufacturer Link; ComponentLink1URL: http://sg.renesas.com/fmwk.jsp?cnt=h8_family_landing.jsp&fp=/products/mpumcu/h8_family/; ComponentLink2Description: Datasheet; ComponentLink2URL: http://documentation.renesas.com/eng/products/mpumcu/e602134_h83657.pdf; ComponentLink3Description: Packaging Specification; ComponentLink3URL: http://sg.renesas.com/media/products/common_info/package/pdf/ic/code/prqp0080gd_b.pdf
footprint PRQP0080GD-B_N (QFP, 80-Leads, Body 20x14mm, Pitch 0.8mm, IPC Medium Density)
footprint PRQP0080GD-B_L (QFP, 80-Leads, Body 20x14mm, Pitch 0.8mm, IPC High Density)
footprint PRQP0080GD-B_M (QFP, 80-Leads, Body 20x14mm, Pitch 0.8mm, IPC Low Density)
pins: 1 PB5/AN5 (in), 2 PB4/AN4 (in), 3 PB3/AN3 (in), 4 PB2/AN2 (in), 5 PB1/AN1 (in), 6 PB0/AN0 (in), 7 AVSS (power), 8 TEST (in), 9 X2 (out), 10 X1 (in), 11 VSS (power), 12 OSC1 (in), 13 OSC2 (out), 14 ~{RES} (in), 15 VCC (power), 16 P90 (io), 17 P91 (io), 18 P92 (io), 19 P93 (io), 20 P94 (io), 21 ~{IRQ0} (in), 22 P50/~{INT0} (io), 23 P51/~{INT1} (io), 24 P52/~{INT2} (io), 25 P53/~{INT3} (io), 26 P54/~{INT4} (io), 27 P55/~{INT5}/~{ADTRG} (io), 28 P56/~{INT6}/TMIB (io), 29 P57/~{INT7} (io), 30 P60 (io), 31 P61 (io), 32 P62 (io), 33 P63 (io), 34 P64 (io), 35 P65 (io), 36 P66 (io), 37 P67 (io), 38 P70 (io), 39 P71 (io), 40 P72 (io), 41 P73 (io), 42 P74/TMRIV (io), 43 P75/TMCIV (io), 44 P76/TMOV (io), 45 P77 (io), 46 P80/FTCI (io), 47 P81/FTOA (io), 48 P82/FTOB (io), 49 P83/FTIA (io), 50 P84/FTIB (io), 51 P85/FTIC (io), 52 P86/FTID (io), 53 P87 (io), 54 VSS (power), 55 VCC (power), 56 P30/SCK1 (io), 57 P31/SI1 (io), 58 P32/SO1 (io), 59 P33 (io), 60 P34 (io), 61 P35 (io), 62 P20/SCK3 (io), 63 P21/RXD (io), 64 P22/TXD (io), 65 P23 (io), 66 P24 (io), 67 P25 (io), 68 P26 (io), 69 P27 (io), 70 P10/TMOW (io), 71 P11 (io), 72 P12 (io), 73 P13 (io), 74 P14/PWM (io), 75 P15/~{IRQ1} (io), 76 P16/~{IRQ2} (io), 77 P17/~{IRQ3}/TRGV (io), 78 AVCC (power), 79 PB7/AN7 (in), 80 PB6/AN6 (in)

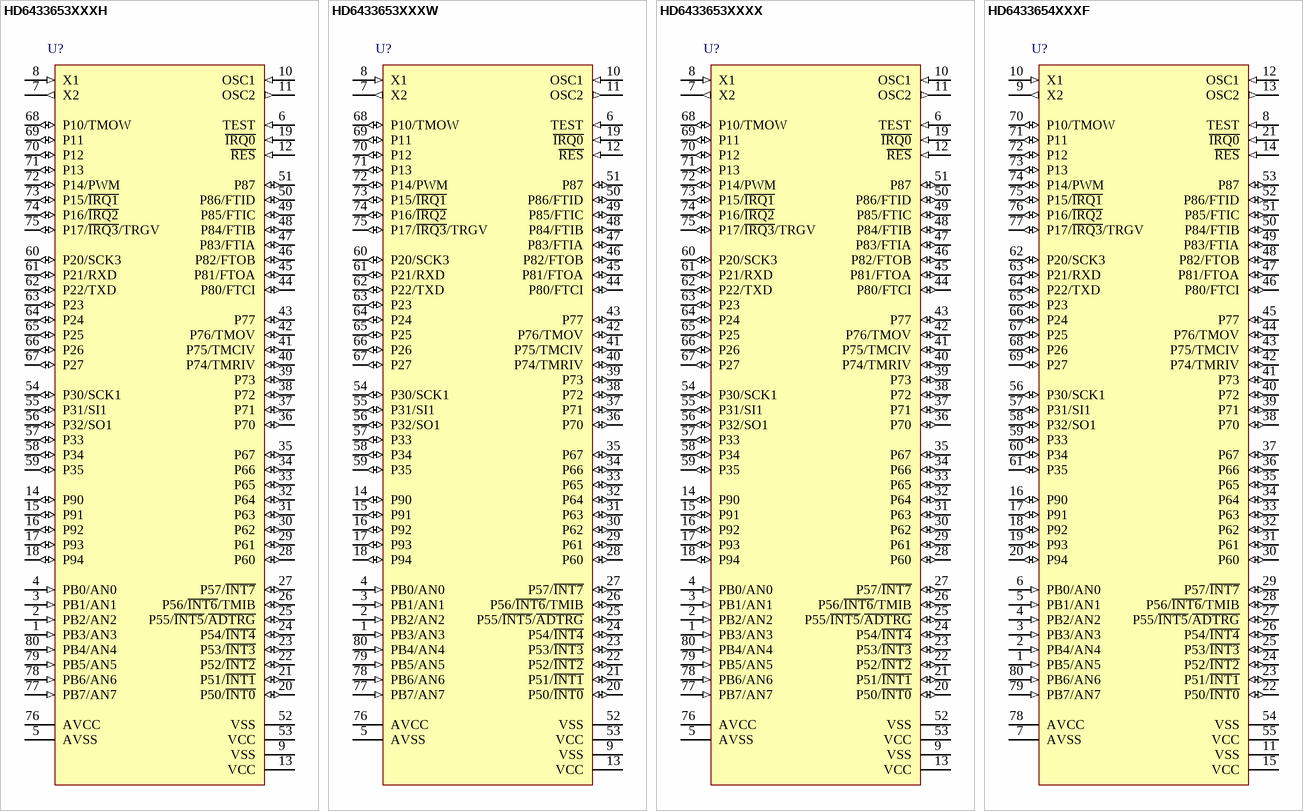
[diagram p51: symbols HD6433653XXXH to HD6433654XXXF]

## HD6433653XXXH
designator U?
H8 Family 8-bit MCU, H8/300L, 24K ROM, 1K RAM, 2.5MHz, 2.2 to 5.5V, 80-Pin QFP; Published: 28-Aug-2009; DatasheetVersion: Oct-1997; PackageVersion: Sep-2005; PackageReference: PRQP0080JB-A; Publisher: Altium Limited; PackageDescription: 80-Pin Plastic Quad Flat Pack, 14 x 14 x 2.7 mm Body, 0.65 mm Pitch; Code_JEITA: P-QFP80-14x14-0.65; Code_IPC: QFP65P1720X1720-80; ComponentLink1Description: Manufacturer Link; ComponentLink1URL: http://sg.renesas.com/fmwk.jsp?cnt=h8_family_landing.jsp&fp=/products/mpumcu/h8_family/; ComponentLink2Description: Datasheet; ComponentLink2URL: http://documentation.renesas.com/eng/products/mpumcu/e602134_h83657.pdf; ComponentLink3Description: Packaging Specification; ComponentLink3URL: http://sg.renesas.com/media/products/common_info/package/pdf/ic/code/prqp0080jb_a.pdf
footprint PRQP0080JB-A_N (QFP, 80-Leads, Body 14x14mm, Pitch 0.65mm, IPC Medium Density)
footprint PRQP0080JB-A_L (QFP, 80-Leads, Body 14x14mm, Pitch 0.65mm, IPC High Density)
footprint PRQP0080JB-A_M (QFP, 80-Leads, Body 14x14mm, Pitch 0.65mm, IPC Low Density)
pins: 1 PB3/AN3 (in), 2 PB2/AN2 (in), 3 PB1/AN1 (in), 4 PB0/AN0 (in), 5 AVSS (power), 6 TEST (in), 7 X2 (out), 8 X1 (in), 9 VSS (power), 10 OSC1 (in), 11 OSC2 (out), 12 ~{RES} (in), 13 VCC (power), 14 P90 (io), 15 P91 (io), 16 P92 (io), 17 P93 (io), 18 P94 (io), 19 ~{IRQ0} (in), 20 P50/~{INT0} (io), 21 P51/~{INT1} (io), 22 P52/~{INT2} (io), 23 P53/~{INT3} (io), 24 P54/~{INT4} (io), 25 P55/~{INT5}/~{ADTRG} (io), 26 P56/~{INT6}/TMIB (io), 27 P57/~{INT7} (io), 28 P60 (io), 29 P61 (io), 30 P62 (io), 31 P63 (io), 32 P64 (io), 33 P65 (io), 34 P66 (io), 35 P67 (io), 36 P70 (io), 37 P71 (io), 38 P72 (io), 39 P73 (io), 40 P74/TMRIV (io), 41 P75/TMCIV (io), 42 P76/TMOV (io), 43 P77 (io), 44 P80/FTCI (io), 45 P81/FTOA (io), 46 P82/FTOB (io), 47 P83/FTIA (io), 48 P84/FTIB (io), 49 P85/FTIC (io), 50 P86/FTID (io), 51 P87 (io), 52 VSS (power), 53 VCC (power), 54 P30/SCK1 (io), 55 P31/SI1 (io), 56 P32/SO1 (io), 57 P33 (io), 58 P34 (io), 59 P35 (io), 60 P20/SCK3 (io), 61 P21/RXD (io), 62 P22/TXD (io), 63 P23 (io), 64 P24 (io), 65 P25 (io), 66 P26 (io), 67 P27 (io), 68 P10/TMOW (io), 69 P11 (io), 70 P12 (io), 71 P13 (io), 72 P14/PWM (io), 73 P15/~{IRQ1} (io), 74 P16/~{IRQ2} (io), 75 P17/~{IRQ3}/TRGV (io), 76 AVCC (power), 77 PB7/AN7 (in), 78 PB6/AN6 (in), 79 PB5/AN5 (in), 80 PB4/AN4 (in)

## HD6433653XXXW
designator U?
H8 Family 8-bit MCU, H8/300L, 24K ROM, 1K RAM, 2.5MHz, 2.2 to 5.5V, 80-Pin QFP; Published: 28-Aug-2009; DatasheetVersion: Oct-1997; PackageVersion: Sep-2005; PackageReference: PTQP0080KC-A; Publisher: Altium Limited; PackageDescription: 80-Pin Plastic Thin Quad Flat Pack, 12 x 12 x 1.0 mm Body, 0.5 mm Pitch; Code_JEITA: P-TQFP80-12x12-0.50; ComponentLink1Description: Manufacturer Link; ComponentLink1URL: http://sg.renesas.com/fmwk.jsp?cnt=h8_family_landing.jsp&fp=/products/mpumcu/h8_family/; ComponentLink2Description: Datasheet; ComponentLink2URL: http://documentation.renesas.com/eng/products/mpumcu/e602134_h83657.pdf; ComponentLink3Description: Packaging Specification; ComponentLink3URL: http://sg.renesas.com/media/products/common_info/package/pdf/ic/code/ptqp0080kc_a.pdf
footprint PTQP0080KC-A_N (Thin QFP, 80-Leads, Body 12x12mm, Pitch 0.5mm, IPC Medium Density)
footprint PTQP0080KC-A_L (Thin QFP, 80-Leads, Body 12x12mm, Pitch 0.5mm, IPC High Density)
footprint PTQP0080KC-A_M (Thin QFP, 80-Leads, Body 12x12mm, Pitch 0.5mm, IPC Low Density)
pins: 1 PB3/AN3 (in), 2 PB2/AN2 (in), 3 PB1/AN1 (in), 4 PB0/AN0 (in), 5 AVSS (power), 6 TEST (in), 7 X2 (out), 8 X1 (in), 9 VSS (power), 10 OSC1 (in), 11 OSC2 (out), 12 ~{RES} (in), 13 VCC (power), 14 P90 (io), 15 P91 (io), 16 P92 (io), 17 P93 (io), 18 P94 (io), 19 ~{IRQ0} (in), 20 P50/~{INT0} (io), 21 P51/~{INT1} (io), 22 P52/~{INT2} (io), 23 P53/~{INT3} (io), 24 P54/~{INT4} (io), 25 P55/~{INT5}/~{ADTRG} (io), 26 P56/~{INT6}/TMIB (io), 27 P57/~{INT7} (io), 28 P60 (io), 29 P61 (io), 30 P62 (io), 31 P63 (io), 32 P64 (io), 33 P65 (io), 34 P66 (io), 35 P67 (io), 36 P70 (io), 37 P71 (io), 38 P72 (io), 39 P73 (io), 40 P74/TMRIV (io), 41 P75/TMCIV (io), 42 P76/TMOV (io), 43 P77 (io), 44 P80/FTCI (io), 45 P81/FTOA (io), 46 P82/FTOB (io), 47 P83/FTIA (io), 48 P84/FTIB (io), 49 P85/FTIC (io), 50 P86/FTID (io), 51 P87 (io), 52 VSS (power), 53 VCC (power), 54 P30/SCK1 (io), 55 P31/SI1 (io), 56 P32/SO1 (io), 57 P33 (io), 58 P34 (io), 59 P35 (io), 60 P20/SCK3 (io), 61 P21/RXD (io), 62 P22/TXD (io), 63 P23 (io), 64 P24 (io), 65 P25 (io), 66 P26 (io), 67 P27 (io), 68 P10/TMOW (io), 69 P11 (io), 70 P12 (io), 71 P13 (io), 72 P14/PWM (io), 73 P15/~{IRQ1} (io), 74 P16/~{IRQ2} (io), 75 P17/~{IRQ3}/TRGV (io), 76 AVCC (power), 77 PB7/AN7 (in), 78 PB6/AN6 (in), 79 PB5/AN5 (in), 80 PB4/AN4 (in)

## HD6433653XXXX
designator U?
H8 Family 8-bit MCU, H8/300L, 24K ROM, 1K RAM, 2.5MHz, 2.2 to 5.5V, 80-Pin QFP; Published: 28-Aug-2009; DatasheetVersion: Oct-1997; PackageVersion: Sep-2005; PackageReference: PTQP0080JA-B; Publisher: Altium Limited; PackageDescription: 80-Pin Plastic Thin Quad Flat Pack, 14 x 14 x 1.0 mm Body, 0.65 mm Pitch; Code_JEITA: P-TQFP80-14x14-0.65; ComponentLink1Description: Manufacturer Link; ComponentLink1URL: http://sg.renesas.com/fmwk.jsp?cnt=h8_family_landing.jsp&fp=/products/mpumcu/h8_family/; ComponentLink2Description: Datasheet; ComponentLink2URL: http://documentation.renesas.com/eng/products/mpumcu/e602134_h83657.pdf; ComponentLink3Description: Packaging Specification; ComponentLink3URL: http://sg.renesas.com/media/products/common_info/package/pdf/ic/code/ptqp0080ja_b.pdf
footprint PTQP0080JA-B_N (Thin QFP, 80-Leads, Body 14 x 14mm, Pitch 0.65mm, IPC Medium Density)
footprint PTQP0080JA-B_L (Thin QFP, 80-Leads, Body 14 x 14mm, Pitch 0.65mm, IPC High Density)
footprint PTQP0080JA-B_M (Thin QFP, 80-Leads, Body 14 x 14mm, Pitch 0.65mm, IPC Low Density)
pins: 1 PB3/AN3 (in), 2 PB2/AN2 (in), 3 PB1/AN1 (in), 4 PB0/AN0 (in), 5 AVSS (power), 6 TEST (in), 7 X2 (out), 8 X1 (in), 9 VSS (power), 10 OSC1 (in), 11 OSC2 (out), 12 ~{RES} (in), 13 VCC (power), 14 P90 (io), 15 P91 (io), 16 P92 (io), 17 P93 (io), 18 P94 (io), 19 ~{IRQ0} (in), 20 P50/~{INT0} (io), 21 P51/~{INT1} (io), 22 P52/~{INT2} (io), 23 P53/~{INT3} (io), 24 P54/~{INT4} (io), 25 P55/~{INT5}/~{ADTRG} (io), 26 P56/~{INT6}/TMIB (io), 27 P57/~{INT7} (io), 28 P60 (io), 29 P61 (io), 30 P62 (io), 31 P63 (io), 32 P64 (io), 33 P65 (io), 34 P66 (io), 35 P67 (io), 36 P70 (io), 37 P71 (io), 38 P72 (io), 39 P73 (io), 40 P74/TMRIV (io), 41 P75/TMCIV (io), 42 P76/TMOV (io), 43 P77 (io), 44 P80/FTCI (io), 45 P81/FTOA (io), 46 P82/FTOB (io), 47 P83/FTIA (io), 48 P84/FTIB (io), 49 P85/FTIC (io), 50 P86/FTID (io), 51 P87 (io), 52 VSS (power), 53 VCC (power), 54 P30/SCK1 (io), 55 P31/SI1 (io), 56 P32/SO1 (io), 57 P33 (io), 58 P34 (io), 59 P35 (io), 60 P20/SCK3 (io), 61 P21/RXD (io), 62 P22/TXD (io), 63 P23 (io), 64 P24 (io), 65 P25 (io), 66 P26 (io), 67 P27 (io), 68 P10/TMOW (io), 69 P11 (io), 70 P12 (io), 71 P13 (io), 72 P14/PWM (io), 73 P15/~{IRQ1} (io), 74 P16/~{IRQ2} (io), 75 P17/~{IRQ3}/TRGV (io), 76 AVCC (power), 77 PB7/AN7 (in), 78 PB6/AN6 (in), 79 PB5/AN5 (in), 80 PB4/AN4 (in)

## HD6433654XXXF
designator U?
H8 Family 8-bit MCU, H8/300L, 32K ROM, 1K RAM, 2.5MHz, 2.2 to 5.5V, 80-Pin QFP; Published: 28-Aug-2009; DatasheetVersion: Oct-1997; PackageVersion: Sep-2005; PackageReference: PRQP0080GD-B; Publisher: Altium Limited; PackageDescription: 80-Pin Plastic Quad Flat Pack, 20 x 14 x 2.7 mm Body, 0.8 mm Pitch; Code_JEITA: P-QFP80-14x20-0.80; ComponentLink1Description: Manufacturer Link; ComponentLink1URL: http://sg.renesas.com/fmwk.jsp?cnt=h8_family_landing.jsp&fp=/products/mpumcu/h8_family/; ComponentLink2Description: Datasheet; ComponentLink2URL: http://documentation.renesas.com/eng/products/mpumcu/e602134_h83657.pdf; ComponentLink3Description: Packaging Specification; ComponentLink3URL: http://sg.renesas.com/media/products/common_info/package/pdf/ic/code/prqp0080gd_b.pdf
footprint PRQP0080GD-B_N (QFP, 80-Leads, Body 20x14mm, Pitch 0.8mm, IPC Medium Density)
footprint PRQP0080GD-B_L (QFP, 80-Leads, Body 20x14mm, Pitch 0.8mm, IPC High Density)
footprint PRQP0080GD-B_M (QFP, 80-Leads, Body 20x14mm, Pitch 0.8mm, IPC Low Density)
pins: 1 PB5/AN5 (in), 2 PB4/AN4 (in), 3 PB3/AN3 (in), 4 PB2/AN2 (in), 5 PB1/AN1 (in), 6 PB0/AN0 (in), 7 AVSS (power), 8 TEST (in), 9 X2 (out), 10 X1 (in), 11 VSS (power), 12 OSC1 (in), 13 OSC2 (out), 14 ~{RES} (in), 15 VCC (power), 16 P90 (io), 17 P91 (io), 18 P92 (io), 19 P93 (io), 20 P94 (io), 21 ~{IRQ0} (in), 22 P50/~{INT0} (io), 23 P51/~{INT1} (io), 24 P52/~{INT2} (io), 25 P53/~{INT3} (io), 26 P54/~{INT4} (io), 27 P55/~{INT5}/~{ADTRG} (io), 28 P56/~{INT6}/TMIB (io), 29 P57/~{INT7} (io), 30 P60 (io), 31 P61 (io), 32 P62 (io), 33 P63 (io), 34 P64 (io), 35 P65 (io), 36 P66 (io), 37 P67 (io), 38 P70 (io), 39 P71 (io), 40 P72 (io), 41 P73 (io), 42 P74/TMRIV (io), 43 P75/TMCIV (io), 44 P76/TMOV (io), 45 P77 (io), 46 P80/FTCI (io), 47 P81/FTOA (io), 48 P82/FTOB (io), 49 P83/FTIA (io), 50 P84/FTIB (io), 51 P85/FTIC (io), 52 P86/FTID (io), 53 P87 (io), 54 VSS (power), 55 VCC (power), 56 P30/SCK1 (io), 57 P31/SI1 (io), 58 P32/SO1 (io), 59 P33 (io), 60 P34 (io), 61 P35 (io), 62 P20/SCK3 (io), 63 P21/RXD (io), 64 P22/TXD (io), 65 P23 (io), 66 P24 (io), 67 P25 (io), 68 P26 (io), 69 P27 (io), 70 P10/TMOW (io), 71 P11 (io), 72 P12 (io), 73 P13 (io), 74 P14/PWM (io), 75 P15/~{IRQ1} (io), 76 P16/~{IRQ2} (io), 77 P17/~{IRQ3}/TRGV (io), 78 AVCC (power), 79 PB7/AN7 (in), 80 PB6/AN6 (in)

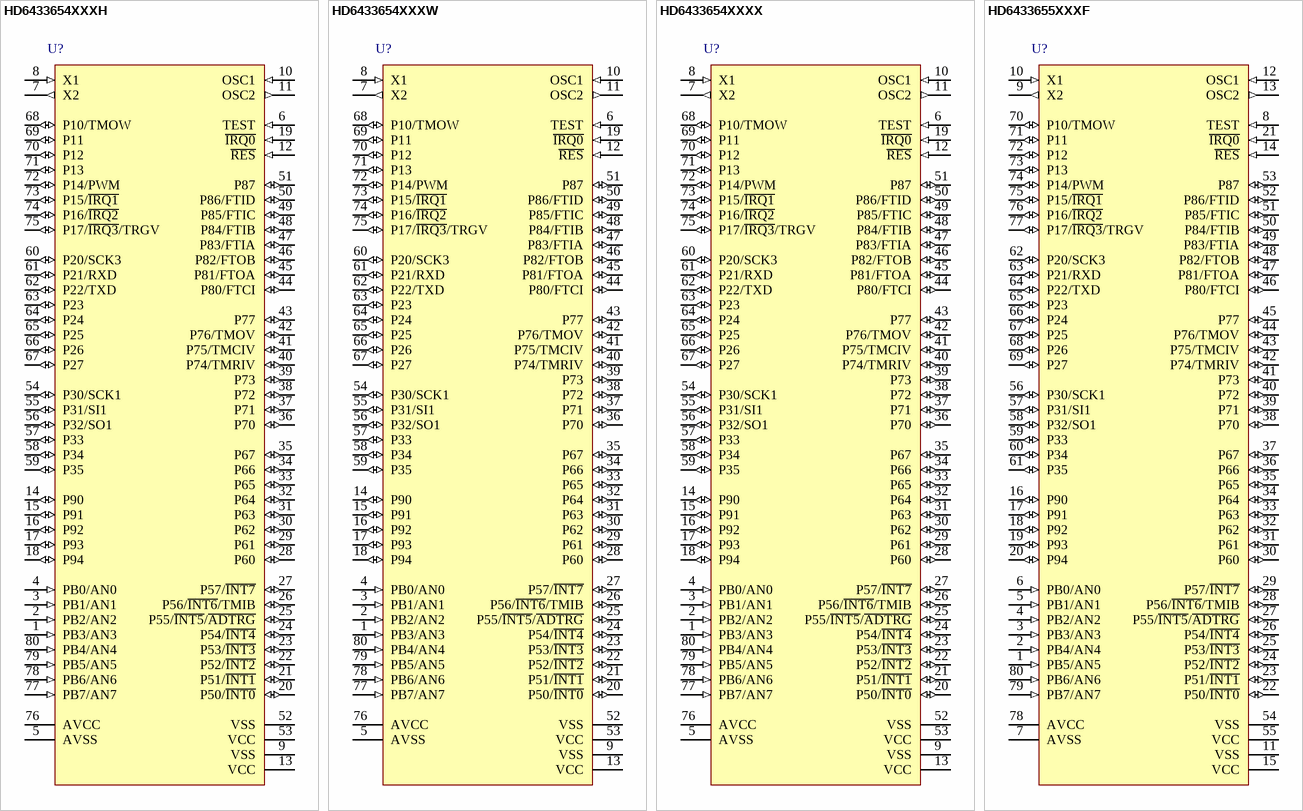
[diagram p52: symbols HD6433654XXXH to HD6433655XXXF]

## HD6433654XXXH
designator U?
H8 Family 8-bit MCU, H8/300L, 32K ROM, 1K RAM, 2.5MHz, 2.2 to 5.5V, 80-Pin QFP; Published: 28-Aug-2009; DatasheetVersion: Oct-1997; PackageVersion: Sep-2005; PackageReference: PRQP0080JB-A; Publisher: Altium Limited; PackageDescription: 80-Pin Plastic Quad Flat Pack, 14 x 14 x 2.7 mm Body, 0.65 mm Pitch; Code_JEITA: P-QFP80-14x14-0.65; Code_IPC: QFP65P1720X1720-80; ComponentLink1Description: Manufacturer Link; ComponentLink1URL: http://sg.renesas.com/fmwk.jsp?cnt=h8_family_landing.jsp&fp=/products/mpumcu/h8_family/; ComponentLink2Description: Datasheet; ComponentLink2URL: http://documentation.renesas.com/eng/products/mpumcu/e602134_h83657.pdf; ComponentLink3Description: Packaging Specification; ComponentLink3URL: http://sg.renesas.com/media/products/common_info/package/pdf/ic/code/prqp0080jb_a.pdf
footprint PRQP0080JB-A_N (QFP, 80-Leads, Body 14x14mm, Pitch 0.65mm, IPC Medium Density)
footprint PRQP0080JB-A_L (QFP, 80-Leads, Body 14x14mm, Pitch 0.65mm, IPC High Density)
footprint PRQP0080JB-A_M (QFP, 80-Leads, Body 14x14mm, Pitch 0.65mm, IPC Low Density)
pins: 1 PB3/AN3 (in), 2 PB2/AN2 (in), 3 PB1/AN1 (in), 4 PB0/AN0 (in), 5 AVSS (power), 6 TEST (in), 7 X2 (out), 8 X1 (in), 9 VSS (power), 10 OSC1 (in), 11 OSC2 (out), 12 ~{RES} (in), 13 VCC (power), 14 P90 (io), 15 P91 (io), 16 P92 (io), 17 P93 (io), 18 P94 (io), 19 ~{IRQ0} (in), 20 P50/~{INT0} (io), 21 P51/~{INT1} (io), 22 P52/~{INT2} (io), 23 P53/~{INT3} (io), 24 P54/~{INT4} (io), 25 P55/~{INT5}/~{ADTRG} (io), 26 P56/~{INT6}/TMIB (io), 27 P57/~{INT7} (io), 28 P60 (io), 29 P61 (io), 30 P62 (io), 31 P63 (io), 32 P64 (io), 33 P65 (io), 34 P66 (io), 35 P67 (io), 36 P70 (io), 37 P71 (io), 38 P72 (io), 39 P73 (io), 40 P74/TMRIV (io), 41 P75/TMCIV (io), 42 P76/TMOV (io), 43 P77 (io), 44 P80/FTCI (io), 45 P81/FTOA (io), 46 P82/FTOB (io), 47 P83/FTIA (io), 48 P84/FTIB (io), 49 P85/FTIC (io), 50 P86/FTID (io), 51 P87 (io), 52 VSS (power), 53 VCC (power), 54 P30/SCK1 (io), 55 P31/SI1 (io), 56 P32/SO1 (io), 57 P33 (io), 58 P34 (io), 59 P35 (io), 60 P20/SCK3 (io), 61 P21/RXD (io), 62 P22/TXD (io), 63 P23 (io), 64 P24 (io), 65 P25 (io), 66 P26 (io), 67 P27 (io), 68 P10/TMOW (io), 69 P11 (io), 70 P12 (io), 71 P13 (io), 72 P14/PWM (io), 73 P15/~{IRQ1} (io), 74 P16/~{IRQ2} (io), 75 P17/~{IRQ3}/TRGV (io), 76 AVCC (power), 77 PB7/AN7 (in), 78 PB6/AN6 (in), 79 PB5/AN5 (in), 80 PB4/AN4 (in)

## HD6433654XXXW
designator U?
H8 Family 8-bit MCU, H8/300L, 32K ROM, 1K RAM, 2.5MHz, 2.2 to 5.5V, 80-Pin QFP; Published: 28-Aug-2009; DatasheetVersion: Oct-1997; PackageVersion: Sep-2005; PackageReference: PTQP0080KC-A; Publisher: Altium Limited; PackageDescription: 80-Pin Plastic Thin Quad Flat Pack, 12 x 12 x 1.0 mm Body, 0.5 mm Pitch; Code_JEITA: P-TQFP80-12x12-0.50; ComponentLink1Description: Manufacturer Link; ComponentLink1URL: http://sg.renesas.com/fmwk.jsp?cnt=h8_family_landing.jsp&fp=/products/mpumcu/h8_family/; ComponentLink2Description: Datasheet; ComponentLink2URL: http://documentation.renesas.com/eng/products/mpumcu/e602134_h83657.pdf; ComponentLink3Description: Packaging Specification; ComponentLink3URL: http://sg.renesas.com/media/products/common_info/package/pdf/ic/code/ptqp0080kc_a.pdf
footprint PTQP0080KC-A_N (Thin QFP, 80-Leads, Body 12x12mm, Pitch 0.5mm, IPC Medium Density)
footprint PTQP0080KC-A_L (Thin QFP, 80-Leads, Body 12x12mm, Pitch 0.5mm, IPC High Density)
footprint PTQP0080KC-A_M (Thin QFP, 80-Leads, Body 12x12mm, Pitch 0.5mm, IPC Low Density)
pins: 1 PB3/AN3 (in), 2 PB2/AN2 (in), 3 PB1/AN1 (in), 4 PB0/AN0 (in), 5 AVSS (power), 6 TEST (in), 7 X2 (out), 8 X1 (in), 9 VSS (power), 10 OSC1 (in), 11 OSC2 (out), 12 ~{RES} (in), 13 VCC (power), 14 P90 (io), 15 P91 (io), 16 P92 (io), 17 P93 (io), 18 P94 (io), 19 ~{IRQ0} (in), 20 P50/~{INT0} (io), 21 P51/~{INT1} (io), 22 P52/~{INT2} (io), 23 P53/~{INT3} (io), 24 P54/~{INT4} (io), 25 P55/~{INT5}/~{ADTRG} (io), 26 P56/~{INT6}/TMIB (io), 27 P57/~{INT7} (io), 28 P60 (io), 29 P61 (io), 30 P62 (io), 31 P63 (io), 32 P64 (io), 33 P65 (io), 34 P66 (io), 35 P67 (io), 36 P70 (io), 37 P71 (io), 38 P72 (io), 39 P73 (io), 40 P74/TMRIV (io), 41 P75/TMCIV (io), 42 P76/TMOV (io), 43 P77 (io), 44 P80/FTCI (io), 45 P81/FTOA (io), 46 P82/FTOB (io), 47 P83/FTIA (io), 48 P84/FTIB (io), 49 P85/FTIC (io), 50 P86/FTID (io), 51 P87 (io), 52 VSS (power), 53 VCC (power), 54 P30/SCK1 (io), 55 P31/SI1 (io), 56 P32/SO1 (io), 57 P33 (io), 58 P34 (io), 59 P35 (io), 60 P20/SCK3 (io), 61 P21/RXD (io), 62 P22/TXD (io), 63 P23 (io), 64 P24 (io), 65 P25 (io), 66 P26 (io), 67 P27 (io), 68 P10/TMOW (io), 69 P11 (io), 70 P12 (io), 71 P13 (io), 72 P14/PWM (io), 73 P15/~{IRQ1} (io), 74 P16/~{IRQ2} (io), 75 P17/~{IRQ3}/TRGV (io), 76 AVCC (power), 77 PB7/AN7 (in), 78 PB6/AN6 (in), 79 PB5/AN5 (in), 80 PB4/AN4 (in)

## HD6433654XXXX
designator U?
H8 Family 8-bit MCU, H8/300L, 32K ROM, 1K RAM, 2.5MHz, 2.2 to 5.5V, 80-Pin QFP; Published: 28-Aug-2009; DatasheetVersion: Oct-1997; PackageVersion: Sep-2005; PackageReference: PTQP0080JA-B; Publisher: Altium Limited; PackageDescription: 80-Pin Plastic Thin Quad Flat Pack, 14 x 14 x 1.0 mm Body, 0.65 mm Pitch; Code_JEITA: P-TQFP80-14x14-0.65; ComponentLink1Description: Manufacturer Link; ComponentLink1URL: http://sg.renesas.com/fmwk.jsp?cnt=h8_family_landing.jsp&fp=/products/mpumcu/h8_family/; ComponentLink2Description: Datasheet; ComponentLink2URL: http://documentation.renesas.com/eng/products/mpumcu/e602134_h83657.pdf; ComponentLink3Description: Packaging Specification; ComponentLink3URL: http://sg.renesas.com/media/products/common_info/package/pdf/ic/code/ptqp0080ja_b.pdf
footprint PTQP0080JA-B_N (Thin QFP, 80-Leads, Body 14 x 14mm, Pitch 0.65mm, IPC Medium Density)
footprint PTQP0080JA-B_L (Thin QFP, 80-Leads, Body 14 x 14mm, Pitch 0.65mm, IPC High Density)
footprint PTQP0080JA-B_M (Thin QFP, 80-Leads, Body 14 x 14mm, Pitch 0.65mm, IPC Low Density)
pins: 1 PB3/AN3 (in), 2 PB2/AN2 (in), 3 PB1/AN1 (in), 4 PB0/AN0 (in), 5 AVSS (power), 6 TEST (in), 7 X2 (out), 8 X1 (in), 9 VSS (power), 10 OSC1 (in), 11 OSC2 (out), 12 ~{RES} (in), 13 VCC (power), 14 P90 (io), 15 P91 (io), 16 P92 (io), 17 P93 (io), 18 P94 (io), 19 ~{IRQ0} (in), 20 P50/~{INT0} (io), 21 P51/~{INT1} (io), 22 P52/~{INT2} (io), 23 P53/~{INT3} (io), 24 P54/~{INT4} (io), 25 P55/~{INT5}/~{ADTRG} (io), 26 P56/~{INT6}/TMIB (io), 27 P57/~{INT7} (io), 28 P60 (io), 29 P61 (io), 30 P62 (io), 31 P63 (io), 32 P64 (io), 33 P65 (io), 34 P66 (io), 35 P67 (io), 36 P70 (io), 37 P71 (io), 38 P72 (io), 39 P73 (io), 40 P74/TMRIV (io), 41 P75/TMCIV (io), 42 P76/TMOV (io), 43 P77 (io), 44 P80/FTCI (io), 45 P81/FTOA (io), 46 P82/FTOB (io), 47 P83/FTIA (io), 48 P84/FTIB (io), 49 P85/FTIC (io), 50 P86/FTID (io), 51 P87 (io), 52 VSS (power), 53 VCC (power), 54 P30/SCK1 (io), 55 P31/SI1 (io), 56 P32/SO1 (io), 57 P33 (io), 58 P34 (io), 59 P35 (io), 60 P20/SCK3 (io), 61 P21/RXD (io), 62 P22/TXD (io), 63 P23 (io), 64 P24 (io), 65 P25 (io), 66 P26 (io), 67 P27 (io), 68 P10/TMOW (io), 69 P11 (io), 70 P12 (io), 71 P13 (io), 72 P14/PWM (io), 73 P15/~{IRQ1} (io), 74 P16/~{IRQ2} (io), 75 P17/~{IRQ3}/TRGV (io), 76 AVCC (power), 77 PB7/AN7 (in), 78 PB6/AN6 (in), 79 PB5/AN5 (in), 80 PB4/AN4 (in)

## HD6433655XXXF
designator U?
H8 Family 8-bit MCU, H8/300L, 40K ROM, 2K RAM, 2.5MHz, 2.2 to 5.5V, 80-Pin QFP; Published: 28-Aug-2009; DatasheetVersion: Oct-1997; PackageVersion: Sep-2005; PackageReference: PRQP0080GD-B; Publisher: Altium Limited; PackageDescription: 80-Pin Plastic Quad Flat Pack, 20 x 14 x 2.7 mm Body, 0.8 mm Pitch; Code_JEITA: P-QFP80-14x20-0.80; ComponentLink1Description: Manufacturer Link; ComponentLink1URL: http://sg.renesas.com/fmwk.jsp?cnt=h8_family_landing.jsp&fp=/products/mpumcu/h8_family/; ComponentLink2Description: Datasheet; ComponentLink2URL: http://documentation.renesas.com/eng/products/mpumcu/e602134_h83657.pdf; ComponentLink3Description: Packaging Specification; ComponentLink3URL: http://sg.renesas.com/media/products/common_info/package/pdf/ic/code/prqp0080gd_b.pdf
footprint PRQP0080GD-B_N (QFP, 80-Leads, Body 20x14mm, Pitch 0.8mm, IPC Medium Density)
footprint PRQP0080GD-B_L (QFP, 80-Leads, Body 20x14mm, Pitch 0.8mm, IPC High Density)
footprint PRQP0080GD-B_M (QFP, 80-Leads, Body 20x14mm, Pitch 0.8mm, IPC Low Density)
pins: 1 PB5/AN5 (in), 2 PB4/AN4 (in), 3 PB3/AN3 (in), 4 PB2/AN2 (in), 5 PB1/AN1 (in), 6 PB0/AN0 (in), 7 AVSS (power), 8 TEST (in), 9 X2 (out), 10 X1 (in), 11 VSS (power), 12 OSC1 (in), 13 OSC2 (out), 14 ~{RES} (in), 15 VCC (power), 16 P90 (io), 17 P91 (io), 18 P92 (io), 19 P93 (io), 20 P94 (io), 21 ~{IRQ0} (in), 22 P50/~{INT0} (io), 23 P51/~{INT1} (io), 24 P52/~{INT2} (io), 25 P53/~{INT3} (io), 26 P54/~{INT4} (io), 27 P55/~{INT5}/~{ADTRG} (io), 28 P56/~{INT6}/TMIB (io), 29 P57/~{INT7} (io), 30 P60 (io), 31 P61 (io), 32 P62 (io), 33 P63 (io), 34 P64 (io), 35 P65 (io), 36 P66 (io), 37 P67 (io), 38 P70 (io), 39 P71 (io), 40 P72 (io), 41 P73 (io), 42 P74/TMRIV (io), 43 P75/TMCIV (io), 44 P76/TMOV (io), 45 P77 (io), 46 P80/FTCI (io), 47 P81/FTOA (io), 48 P82/FTOB (io), 49 P83/FTIA (io), 50 P84/FTIB (io), 51 P85/FTIC (io), 52 P86/FTID (io), 53 P87 (io), 54 VSS (power), 55 VCC (power), 56 P30/SCK1 (io), 57 P31/SI1 (io), 58 P32/SO1 (io), 59 P33 (io), 60 P34 (io), 61 P35 (io), 62 P20/SCK3 (io), 63 P21/RXD (io), 64 P22/TXD (io), 65 P23 (io), 66 P24 (io), 67 P25 (io), 68 P26 (io), 69 P27 (io), 70 P10/TMOW (io), 71 P11 (io), 72 P12 (io), 73 P13 (io), 74 P14/PWM (io), 75 P15/~{IRQ1} (io), 76 P16/~{IRQ2} (io), 77 P17/~{IRQ3}/TRGV (io), 78 AVCC (power), 79 PB7/AN7 (in), 80 PB6/AN6 (in)

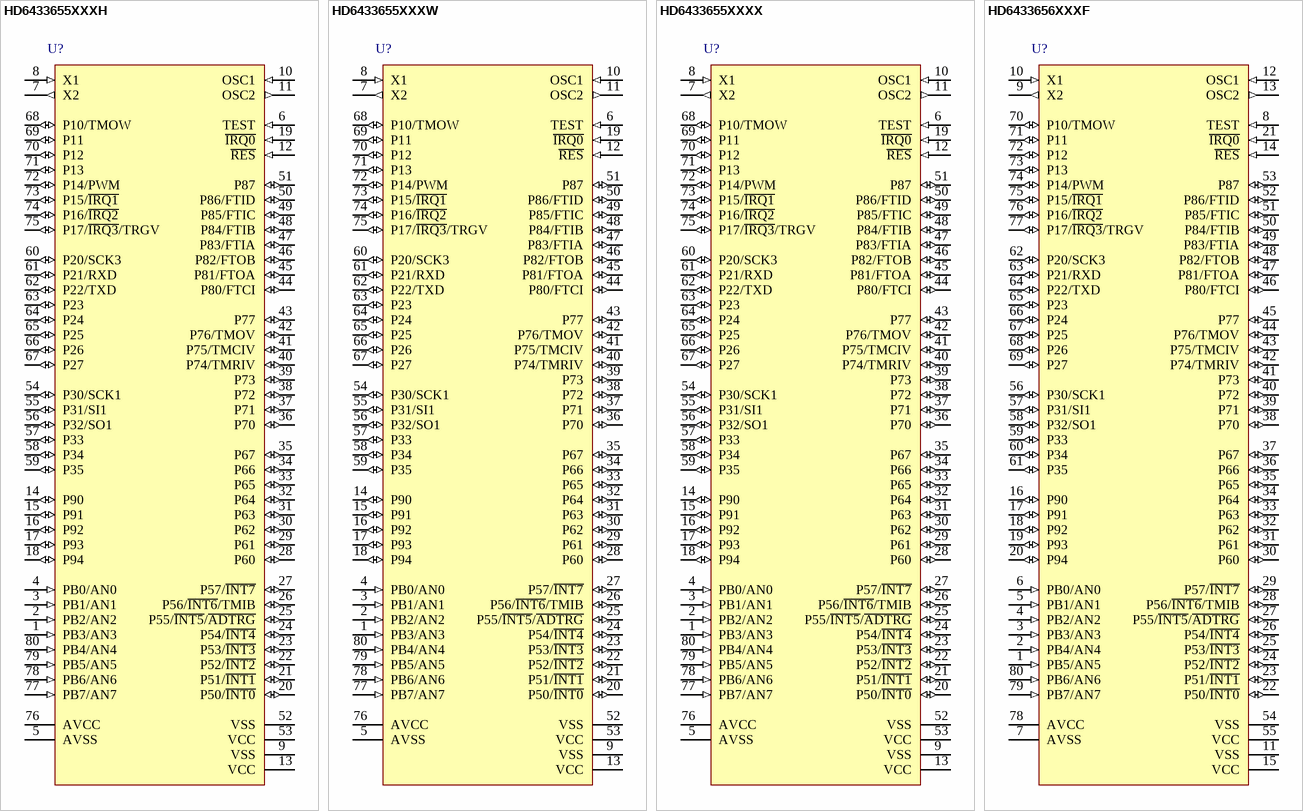
[diagram p53: symbols HD6433655XXXH to HD6433656XXXF]

## HD6433655XXXH
designator U?
H8 Family 8-bit MCU, H8/300L, 40K ROM, 2K RAM, 2.5MHz, 2.2 to 5.5V, 80-Pin QFP; Published: 28-Aug-2009; DatasheetVersion: Oct-1997; PackageVersion: Sep-2005; PackageReference: PRQP0080JB-A; Publisher: Altium Limited; PackageDescription: 80-Pin Plastic Quad Flat Pack, 14 x 14 x 2.7 mm Body, 0.65 mm Pitch; Code_JEITA: P-QFP80-14x14-0.65; Code_IPC: QFP65P1720X1720-80; ComponentLink1Description: Manufacturer Link; ComponentLink1URL: http://sg.renesas.com/fmwk.jsp?cnt=h8_family_landing.jsp&fp=/products/mpumcu/h8_family/; ComponentLink2Description: Datasheet; ComponentLink2URL: http://documentation.renesas.com/eng/products/mpumcu/e602134_h83657.pdf; ComponentLink3Description: Packaging Specification; ComponentLink3URL: http://sg.renesas.com/media/products/common_info/package/pdf/ic/code/prqp0080jb_a.pdf
footprint PRQP0080JB-A_N (QFP, 80-Leads, Body 14x14mm, Pitch 0.65mm, IPC Medium Density)
footprint PRQP0080JB-A_L (QFP, 80-Leads, Body 14x14mm, Pitch 0.65mm, IPC High Density)
footprint PRQP0080JB-A_M (QFP, 80-Leads, Body 14x14mm, Pitch 0.65mm, IPC Low Density)
pins: 1 PB3/AN3 (in), 2 PB2/AN2 (in), 3 PB1/AN1 (in), 4 PB0/AN0 (in), 5 AVSS (power), 6 TEST (in), 7 X2 (out), 8 X1 (in), 9 VSS (power), 10 OSC1 (in), 11 OSC2 (out), 12 ~{RES} (in), 13 VCC (power), 14 P90 (io), 15 P91 (io), 16 P92 (io), 17 P93 (io), 18 P94 (io), 19 ~{IRQ0} (in), 20 P50/~{INT0} (io), 21 P51/~{INT1} (io), 22 P52/~{INT2} (io), 23 P53/~{INT3} (io), 24 P54/~{INT4} (io), 25 P55/~{INT5}/~{ADTRG} (io), 26 P56/~{INT6}/TMIB (io), 27 P57/~{INT7} (io), 28 P60 (io), 29 P61 (io), 30 P62 (io), 31 P63 (io), 32 P64 (io), 33 P65 (io), 34 P66 (io), 35 P67 (io), 36 P70 (io), 37 P71 (io), 38 P72 (io), 39 P73 (io), 40 P74/TMRIV (io), 41 P75/TMCIV (io), 42 P76/TMOV (io), 43 P77 (io), 44 P80/FTCI (io), 45 P81/FTOA (io), 46 P82/FTOB (io), 47 P83/FTIA (io), 48 P84/FTIB (io), 49 P85/FTIC (io), 50 P86/FTID (io), 51 P87 (io), 52 VSS (power), 53 VCC (power), 54 P30/SCK1 (io), 55 P31/SI1 (io), 56 P32/SO1 (io), 57 P33 (io), 58 P34 (io), 59 P35 (io), 60 P20/SCK3 (io), 61 P21/RXD (io), 62 P22/TXD (io), 63 P23 (io), 64 P24 (io), 65 P25 (io), 66 P26 (io), 67 P27 (io), 68 P10/TMOW (io), 69 P11 (io), 70 P12 (io), 71 P13 (io), 72 P14/PWM (io), 73 P15/~{IRQ1} (io), 74 P16/~{IRQ2} (io), 75 P17/~{IRQ3}/TRGV (io), 76 AVCC (power), 77 PB7/AN7 (in), 78 PB6/AN6 (in), 79 PB5/AN5 (in), 80 PB4/AN4 (in)